# Altium schematic symbol library SCH.SchLib: 386 symbols (part 2 of 3)
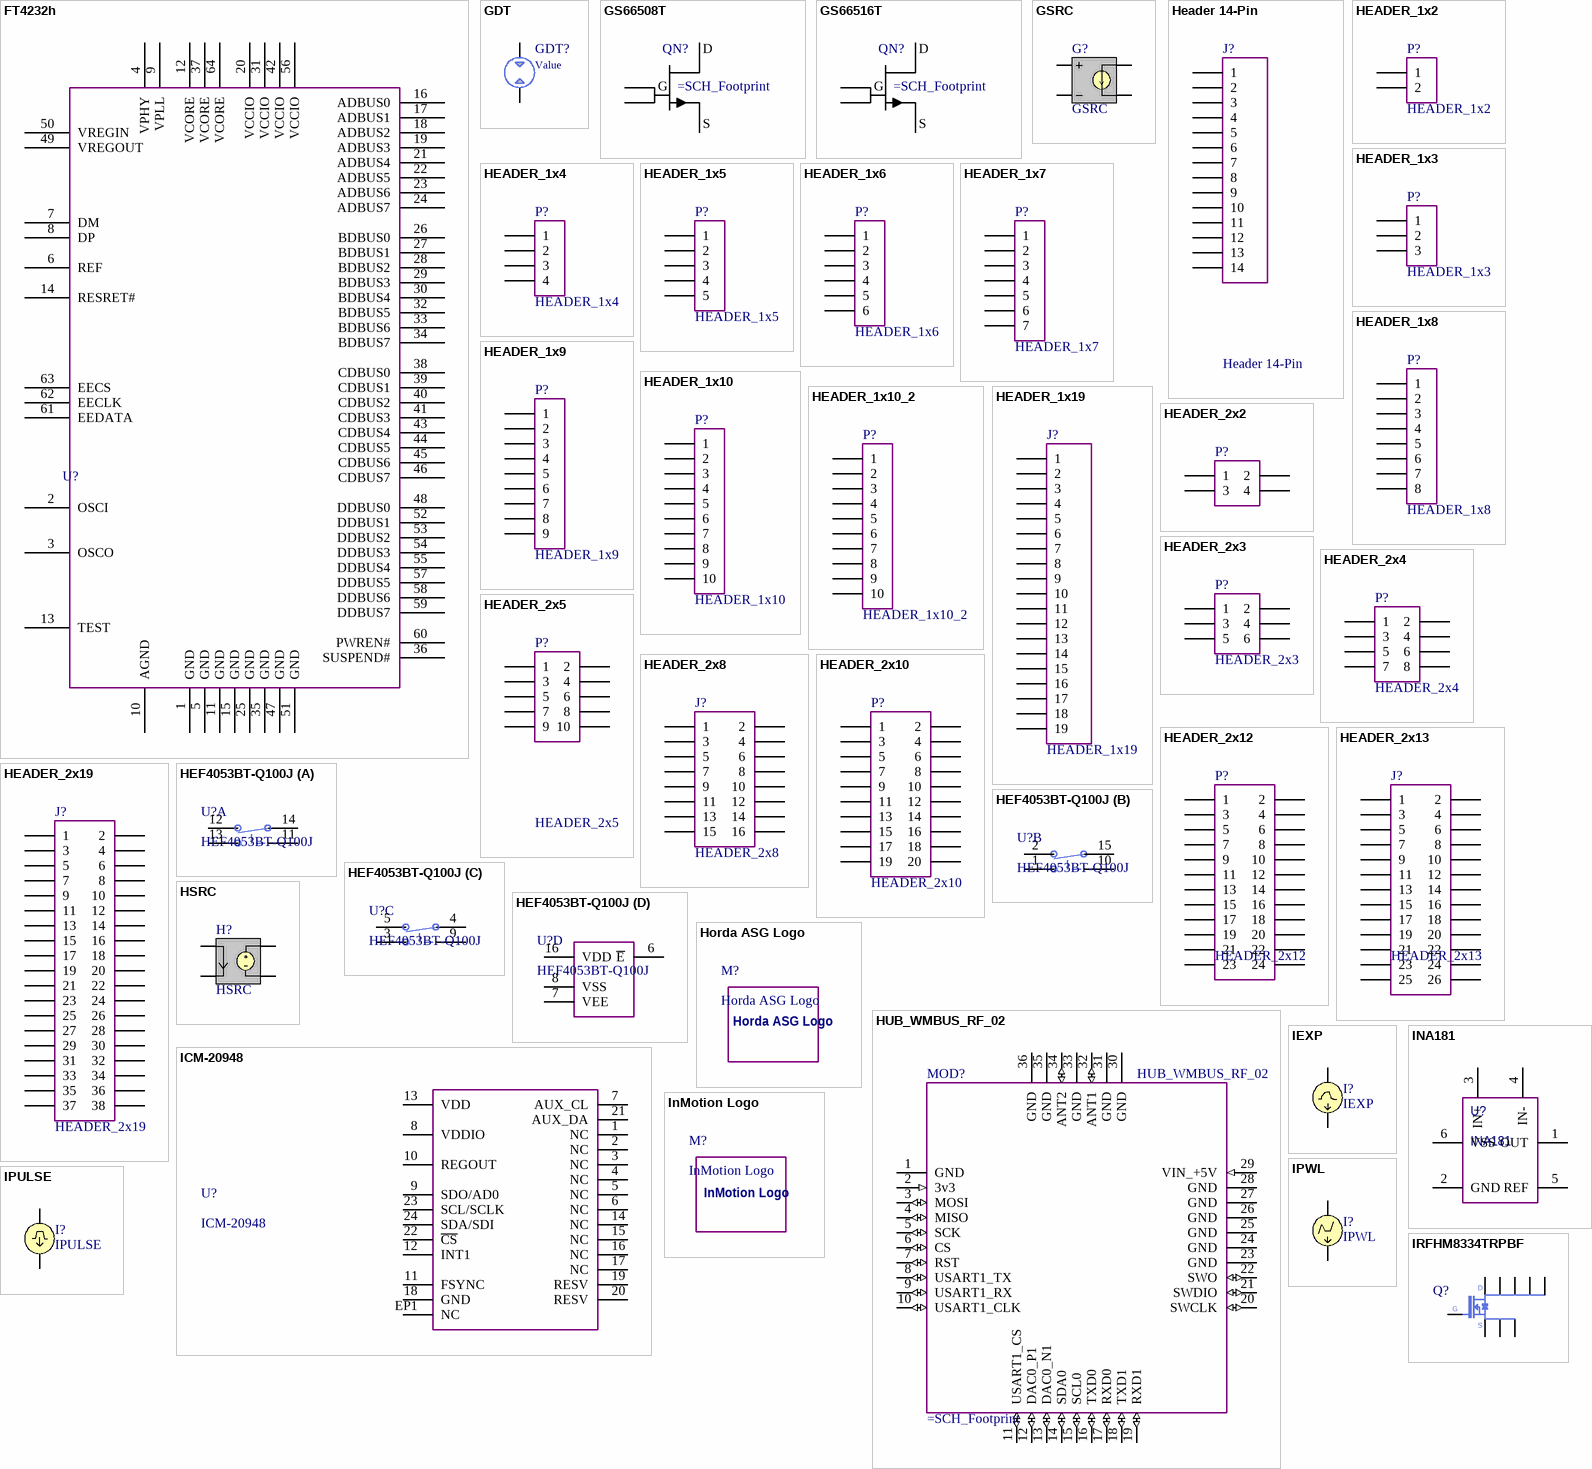
[diagram p15: symbols FT4232h to IRFHM8334TRPBF]

## HUB_WMBUS_RF_02
designator MOD?
pins: 1 GND, 2 3v3 (in), 3 MOSI (io) "PB3;PCNT1_S0IN #1;US2_TX #1", 4 MISO (io) "PB4;PCNT1_S1IN #1", 5 SCK (io) "PB5;US2_CLK #1", 6 CS (io) "PB6;US2_CS #1", 7 RST (io) "RESETn", 8 USART1_TX (io) "PD0;ADC0_CH0;OPAMP_OUT2 #1;PCNT2_S0IN #0;US1_TX #1", 9 USART1_RX (io) "PD1;ADC0_CH1;DAC0_OUT1ALT #4;OPAMP_OUT1ALT;TIM0_CC0 #3;PCNT2_S1IN #0;US1_RX #1;DBG_SWO #2", 10 USART1_CLK (io) "PD2;ADC0_CH2;TIM0_CC1 #3;USB_DMPU #0;US1_CLK #1;DBG_SWO #3", 11 USART1_CS (io) "PD3;ADC0_CH3 OPAMP_N2;TIM0_CC2 #3;US1_CS #1;ETM_TD1 #0/2", 12 DAC0_P1 (io) "PD6;ADC0_CH6 DAC0_P1;OPAMP_P1;TIM1_CC0#4;LE-TIM0_OUT0#0;PCNT0_S0IN#3;US1_RX#2;I2C0_SDA#1;ACMP0_O#2;ETM_TD0#0;BOOT_RX", 13 DAC0_N1 (io) "PD7;;ADC0_CH7;DAC0_N1;OPAMP_N1;TIM1_CC1#4;LE-TIM0_OUT1#0;PCNT0_S1IN#3;US1_TX#2;I2C0_SCL#1;CMU_CLK0#2;ACMP1_O#2;ETM_TCLK#0;BOOT_TX", 14 SDA0 (io) "PC6;ACMP0_CH6;LEU1_TX #0;I2C0_SDA#2;LES_CH6 #0;ETM_TCLK #2", 15 SCL0 (io) "PC7;ACMP0_CH7;LEU1_RX #0;I2C0_SCL #2;LES_CH7 #0 ETM_TD0 #2", 16 TXD0 (io) "PE0;TIM3_CC0#1;PCNT0_S0IN#1;U0_TX#1;I2C1_SDA#2", 17 RXD0 (io) "PE1;TIM3_CC1#1;PCNT0_S1IN#1;U0_RX#1;I2C1_SCL#2", 18 TXD1 (io) "PE2;BU_VOUT;TIM3_CC2#1;U1_TX#3;ACMP0_O#1", 19 RXD1 (io) "PE3;BU_STAT;U1_RX#3;ACMP1_O#1", 20 SWCLK (io) "PF0;TIM0_CC0#5;LE-TIM0_OUT0#2;US1_CLK#2;LEU0_TX#3;I2C0_SDA#5;DBG_SWCLK#0/1/2/3", 21 SWDIO (io) "PF1;TIM0_CC1#5;LE-TIM0_OUT1#2;US1_CS#2;LEU0_RX#3;I2C0_SCL#5;DBG_SWDIO#0/1/2/3;GPIO_EM4WU3", 22 SWO (io) "PF2;TIM0_CC2#5;LEU0_TX#4;ACMP1_O#0;DBG_SWO#0;GPIO_EM4WU4", 23 GND, 24 GND, 25 GND, 26 GND, 27 GND, 28 GND, 29 VIN_+5V (in), 30 GND, 31 GND, 32 ANT1 (io), 33 GND, 34 ANT2 (io), 35 GND, 36 GND

## ICM-20948
designator U?
pins: 1 NC, 2 NC, 3 NC, 4 NC, 5 NC, 6 NC, 7 AUX_CL, 8 VDDIO, 9 SDO/AD0, 10 REGOUT, 11 FSYNC, 12 INT1, 13 VDD, 14 NC (hiz), 15 NC, 16 NC, 17 NC, 18 GND, 19 RESV, 20 RESV, 21 AUX_DA, 22 ~{CS}, 23 SCL/SCLK, 24 SDA/SDI, EP1 NC

## IEXP
designator I?
Exponential Current Source; Published: 8-Jun-2000; LatestRevisionDate: 15-Nov-2004; LatestRevisionNote: Corrected Netlist.; PackageReference: Not Applicable; Publisher: Altium Limited
simulation model IEXP
pins: 1, 2

## INA181
designator U?
pins: 1 OUT, 2 GND, 3 IN+, 4 IN-, 5 REF, 6 VSS

## InMotion Logo
designator M?  (no BOM)

## IPULSE
designator I?
Pulse Current Source; Published: 8-Jun-2000; LatestRevisionDate: 15-Nov-2004; LatestRevisionNote: Corrected Netlist.; PackageReference: Not Applicable; Publisher: Altium Limited
simulation model IPULSE
pins: 1, 2

## IPWL
designator I?
Piecewise Linear Current Source; Sim Note: To add model file containing time-current pairs of values, enter model location under "General Tab" in "Full Path" box.; Published: 8-Jun-2000; LatestRevisionDate: 17-Jul-2002; LatestRevisionNote: Re-released for DXP Platform.; PackageReference: Not Applicable; Publisher: Altium Limited
simulation model IPWL
pins: 1, 2

## IRFHM8334TRPBF
designator Q?  (value not drawn)
pins: 1 S, 2 S, 3 S, 4 G, 5 D, 6 D, 7 D, 8 D, 9 D

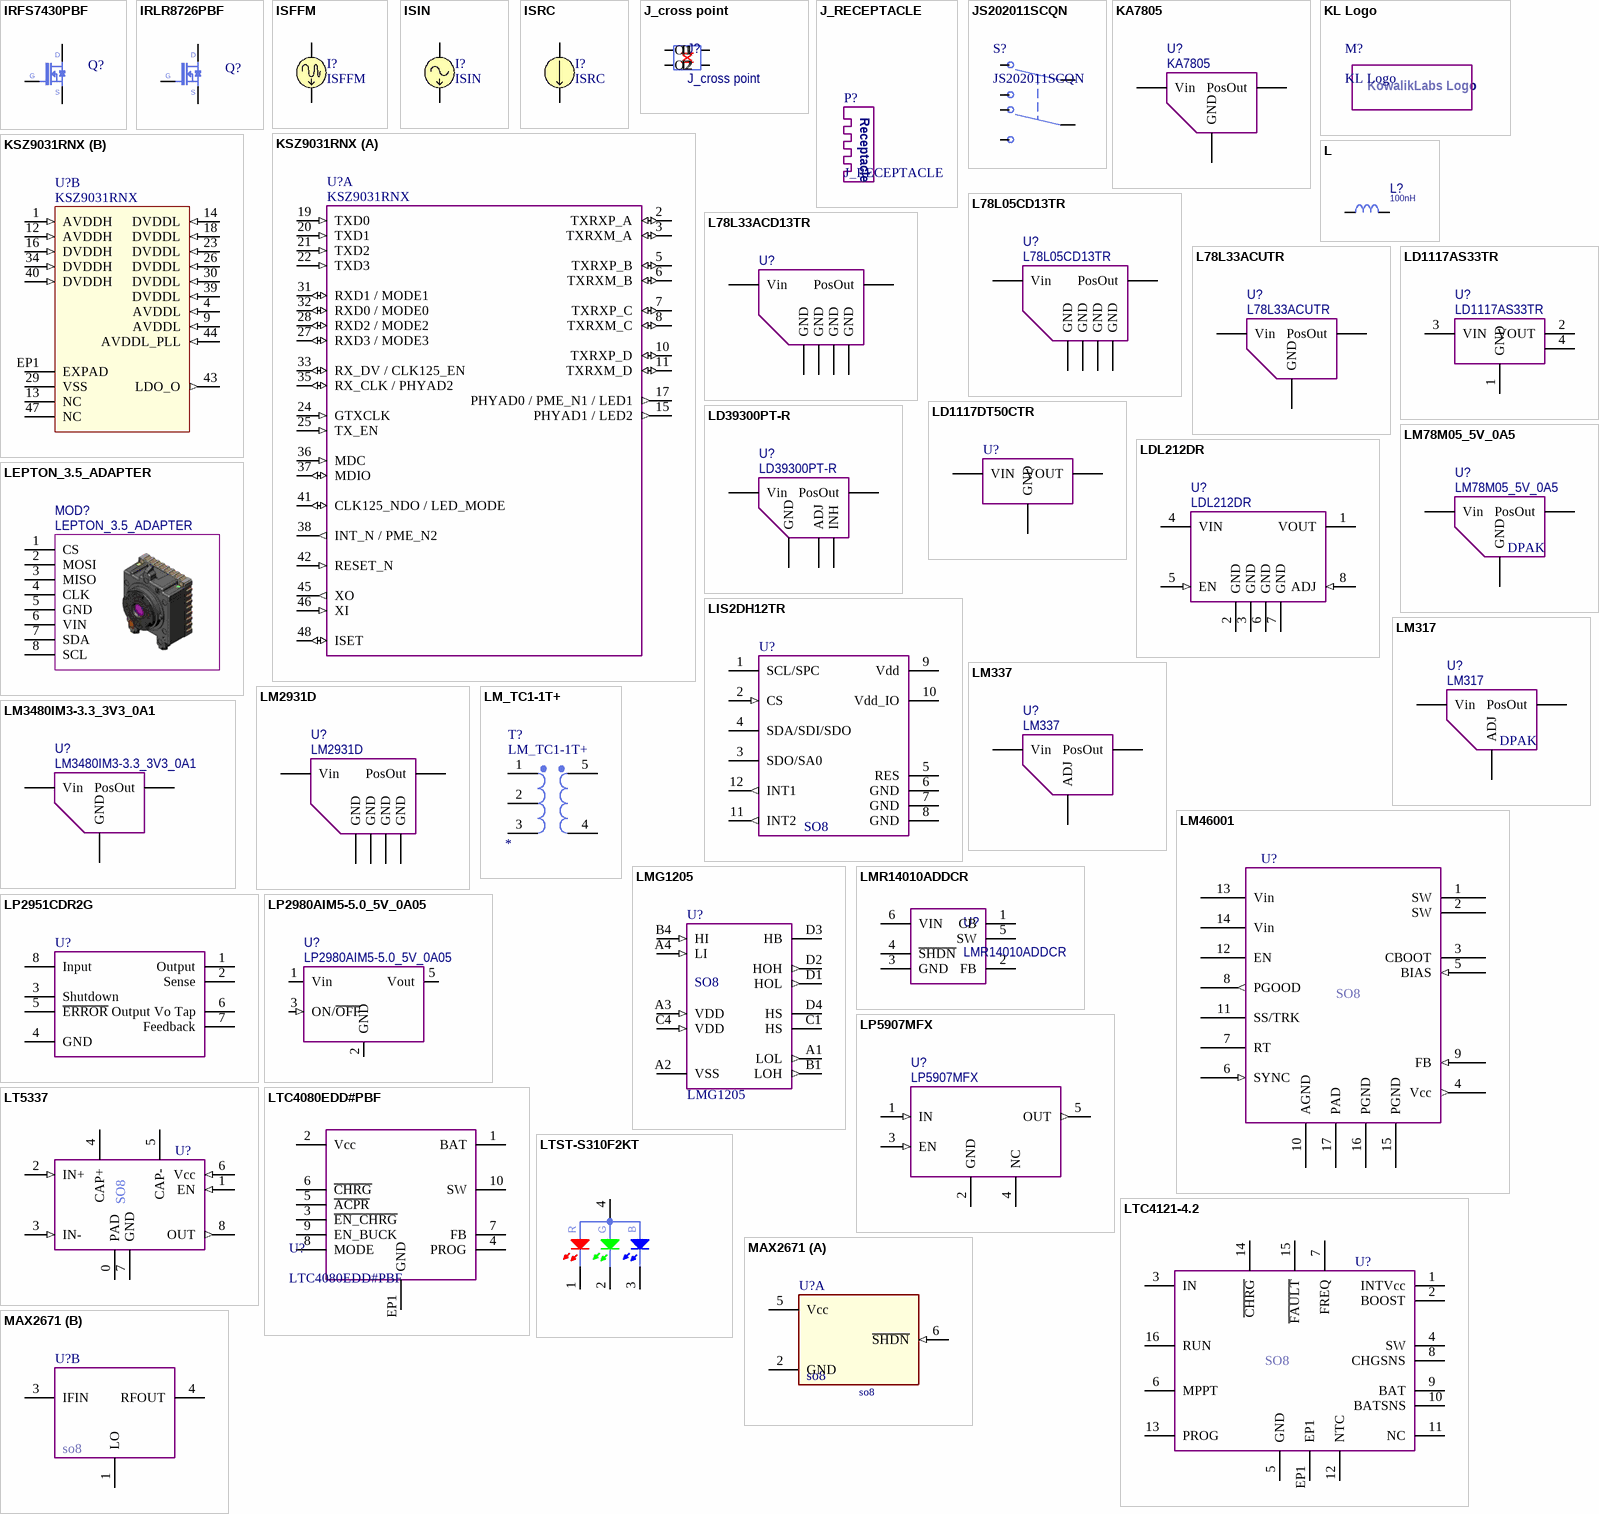
[diagram p6: symbols IRFS7430PBF to MAX2671]

## IRFS7430PBF
designator Q?  (value not drawn)
pins: 1 G, 3 S, 4 D

## IRLR8726PBF
designator Q?  (value not drawn)
pins: 1 G, 2 D, 3 S

## ISFFM
designator I?
Frequency-Modulated Sinusoidal Current Source; Published: 8-Jun-2000; LatestRevisionDate: 17-Jul-2002; LatestRevisionNote: Re-released for DXP Platform.; PackageReference: Not Applicable; Publisher: Altium Limited
simulation model ISFFM
pins: 1, 2

## ISIN
designator I?
Sinusoidal Current Source; Published: 8-Jun-2000; LatestRevisionDate: 15-Nov-2004; LatestRevisionNote: Corrected Netlist.; PackageReference: Not Applicable; Publisher: Altium Limited
simulation model ISIN
pins: 1, 2

## ISRC
designator I?
Current Source; Note: PCB Footprint - Not required; Published: 8-Jun-2000; LatestRevisionDate: 17-Jul-2002; LatestRevisionNote: Re-released for DXP Platform.; PackageReference: Not Applicable; Publisher: Altium Limited
simulation model ISRC
pins: 1, 2

## J_cross point
designator J?  (no BOM)
pins: 1 I1, 2 O1, 3 I2, 4 O2

## J_RECEPTACLE
designator P?
Header, 3-Pin
text: Receptacle

## JS202011SCQN
designator S?
pins: 1, 2, 3, 4, 5, 6

## KA7805
designator U?
pins: 1 Vin, 3 PosOut, 4 GND

## KL Logo
designator M?  (no BOM)
text: KowalikLabs Logo

## KSZ9031RNX
designator U?
part A pins: 2 TXRXP_A (io), 3 TXRXM_A (io), 5 TXRXP_B (io), 6 TXRXM_B (io), 7 TXRXP_C (io), 8 TXRXM_C (io), 10 TXRXP_D (io), 11 TXRXM_D (io), 15 PHYAD1 / LED2 (out) "LED2 / PHYAD1", 17 PHYAD0 / PME_N1 / LED1 (out) "LED! / PME_N1 / PHYAD0", 19 TXD0 (in), 20 TXD1 (in), 21 TXD2 (in), 22 TXD3 (in), 24 GTXCLK (in), 25 TX_EN (in), 27 RXD3 / MODE3 (io), 28 RXD2 / MODE2 (io), 31 RXD1 / MODE1 (io), 32 RXD0 / MODE0 (io), 33 RX_DV / CLK125_EN (io), 35 RX_CLK / PHYAD2 (io), 36 MDC (in), 37 MDIO (io), 38 INT_N / PME_N2 (out), 41 CLK125_NDO / LED_MODE (io), 42 RESET_N (in), 45 XO (out), 46 XI (in), 48 ISET (io)
part B pins: 1 AVDDH (in), 4 AVDDL (in), 9 AVDDL (in), 12 AVDDH (in), 13 NC, 14 DVDDL (in), 16 DVDDH (in), 18 DVDDL (in), 23 DVDDL (in), 26 DVDDL (in), 29 VSS (power), 30 DVDDL (in), 34 DVDDH (in), 39 DVDDL (in), 40 DVDDH (in), 43 LDO_O (out), 44 AVDDL_PLL (in), 47 NC, EP1 EXPAD (power)
2 alternate drawings of the same symbol

## L
designator L?  value 100nH  (hidden comment: L)
Induction
pins: 1, 2
1 alternate drawing of the same symbol

## L78L05CD13TR
designator U?
pins: 1 PosOut, 2 GND, 3 GND, 6 GND, 7 GND, 8 Vin

## L78L33ACD13TR
designator U?  (value not drawn)
pins: 1 PosOut, 2 GND, 3 GND, 6 GND, 7 GND, 8 Vin

## L78L33ACUTR
designator U?
pins: 1 PosOut, 2 GND, 3 Vin

## LD1117AS33TR
designator U?
Low-Dropout Positive Voltage Regulator
pins: 1 GND (power), 2 VOUT (power), 3 VIN (power), 4 VOUT (power)

## LD1117DT50CTR
designator U?  (value not drawn)
pins: 1 GND (power), 3 VIN (power), 4 VOUT (power)

## LD39300PT-R
designator U?
pins: 1 INH, 2 Vin, 4 PosOut, 5 ADJ, 6 GND

## LDL212DR
designator U?
Low-Dropout Positive Voltage Regulator
pins: 1 VOUT (power), 2 GND (power), 3 GND (power), 4 VIN (power), 5 EN (in), 6 GND (power), 7 GND (power), 8 ADJ (in)

## LEPTON_3.5_ADAPTER
designator MOD?
pins: 1 CS, 2 MOSI, 3 MISO, 4 CLK, 5 GND, 6 VIN, 7 SDA, 8 SCL

## LIS2DH12TR
designator U?  SCH_Footprint: SO8  (hidden comment: LIS2DH12TR)
pins: 1 SCL/SPC, 2 CS (in), 3 SDO/SA0, 4 SDA/SDI/SDO, 5 RES (power), 6 GND (power), 7 GND (power), 8 GND (power), 9 Vdd (power), 10 Vdd_IO (power), 11 INT2 (out), 12 INT1 (out)

## LM78M05_5V_0A5
designator U?
pins: 1 Vin, 3 PosOut, 4 GND
text: DPAK

## LM317
designator U?
pins: 1 ADJ, 3 Vin, 4 PosOut
text: DPAK

## LM337
designator U?
pins: 1 ADJ, 3 PosOut, 4 Vin

## LM2931D
designator U?
pins: 1 PosOut, 2 GND, 3 GND, 6 GND, 7 GND, 8 Vin

## LM3480IM3-3.3_3V3_0A1
designator U?
pins: 1 PosOut, 2 Vin, 3 GND

## LM46001
designator U?  SCH_Footprint: SO8  (hidden comment: LM46001)
synchronous  step-down  DC-DC converter,  3.5 V to 60 V, 1A
pins: 1 SW, 2 SW, 3 CBOOT, 4 Vcc (out), 5 BIAS (in), 6 SYNC (in), 7 RT, 8 PGOOD (out), 9 FB (in), 10 AGND, 11 SS/TRK, 12 EN, 13 Vin, 14 Vin, 15 PGND, 16 PGND, 17 PAD

## LM_TC1-1T+
designator T?
RF transformer; SCH_Footprint: *
pins: 1, 2, 3, 4, 5
2 alternate drawings of the same symbol

## LMG1205
designator U?  SCH_Footprint: SO8
pins: A1 LOL (out), A2 VSS, A3 VDD (in), A4 LI (in), B1 LOH (out), B4 HI (in), C1 HS, C4 VDD (in), D1 HOL (out), D2 HOH (out), D3 HB, D4 HS

## LMR14010ADDCR
designator U?
pins: 1 CB, 2 FB, 3 GND, 4 ~{SHDN}, 5 SW, 6 VIN

## LP2951CDR2G
designator U?  (value not drawn)
pins: 1 Output, 2 Sense, 3 Shutdown, 4 GND, 5 ~{ERROR} Output, 6 Vo Tap, 7 Feedback, 8 Input

## LP2980AIM5-5.0_5V_0A05
designator U?
pins: 1 Vin, 2 GND (power), 3 ON/~{OFF} (in), 5 Vout

## LP5907MFX
designator U?
ultra low noise LDO
pins: 1 IN (in), 2 GND (power), 3 EN (in), 4 NC, 5 OUT (out)

## LT5337
designator U?  SCH_Footprint: SO8  (hidden comment: LT5337)
pins: 0 PAD (power), 1 EN (in), 2 IN+ (in), 3 IN- (in), 4 CAP+, 5 CAP-, 6 Vcc (in), 7 GND (power), 8 OUT (out)

## LTC4080EDD#PBF
designator U?
pins: 1 BAT, 2 Vcc, 3 ~{EN_CHRG}, 4 PROG, 5 ~{ACPR}, 6 ~{CHRG}, 7 FB, 8 MODE, 9 EN_BUCK, 10 SW, EP1 GND

## LTC4121-4.2
designator U?  SCH_Footprint: SO8  (hidden comment: LTC4121-4.2)
pins: 1 INTVcc, 2 BOOST, 3 IN (power), 4 SW, 5 GND (power), 6 MPPT, 7 FREQ, 8 CHGSNS, 9 BAT, 10 BATSNS, 11 NC, 12 NTC, 13 PROG, 14 ~{CHRG}, 15 ~{FAULT}, 16 RUN, EP1

## LTST-S310F2KT
designator U?
High Luminous PLCC4 Top SMD LEDs
pins: 1 R, 2 AG, 3 AB, 4 CC
text: G; B

## MAX2671
designator U?  SCH_Footprint: so8  (hidden comment: MAX2671)
400MHz to 2.5GHz Upconverter Mixer
part A pins: 2 GND (power), 5 Vcc (power), 6 ~{SHDN} (in)
part B pins: 1 LO, 3 IFIN, 4 RFOUT

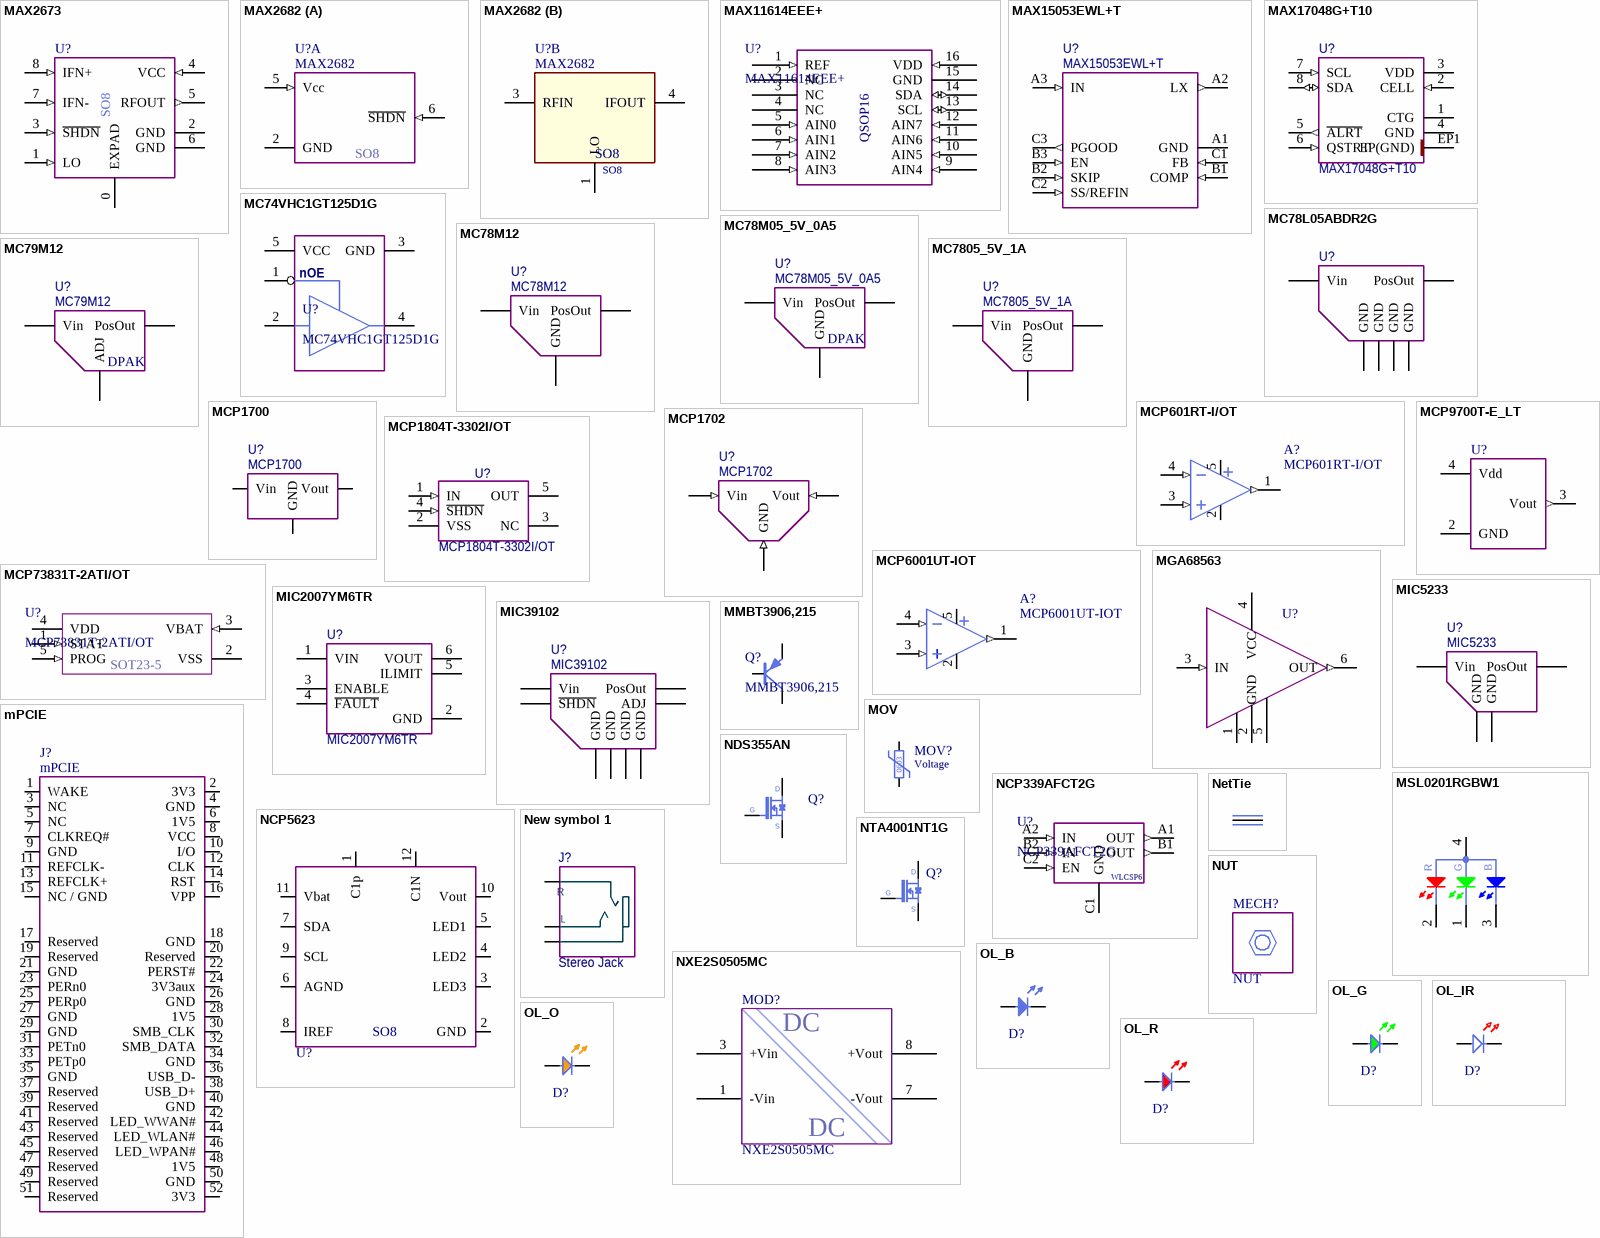
[diagram p7: symbols MAX2673 to OL_R]

## MAX2673
designator U?  SCH_Footprint: SO8  (hidden comment: MAX2673)
400MHz to 2.5GHz Upconverter Mixers
pins: 0 EXPAD, 1 LO (in), 2 GND (power), 3 ~{SHDN} (in), 4 VCC (in), 5 RFOUT (out), 6 GND (power), 7 IFN- (in), 8 IFN+ (in)
2 alternate drawings of the same symbol

## MAX2682
designator U?  SCH_Footprint: SO8
part A pins: 2 GND (power), 5 Vcc (in), 6 ~{SHDN} (in)
part B pins: 1 LO, 3 RFIN, 4 IFOUT
2 alternate drawings of the same symbol

## MAX11614EEE+
designator U?  SCH_Footprint: QSOP16
pins: 1 REF (in), 2 NC, 3 NC, 4 NC, 5 AIN0 (in), 6 AIN1 (in), 7 AIN2 (in), 8 AIN3 (in), 9 AIN4 (in), 10 AIN5 (in), 11 AIN6 (in), 12 AIN7 (in), 13 SCL (io), 14 SDA (io), 15 GND, 16 VDD (in)

## MAX15053EWL+T
designator U?
pins: A1 GND (power), A2 LX (out), A3 IN (in), B1 COMP (in), B2 SKIP (in), B3 EN (in), C1 FB (in), C2 SS/REFIN (in), C3 PGOOD (out)

## MAX17048G+T10
designator U?
3μA 1-Cell/2-Cell Fuel Gauge with ModelGauge; Manufacturer: MAXIM; Table: Analog & Interface; Part Number: MAX17048G+T10; Component Kind: Standard; Component Type: Standard; Footprint: SON50P200X80_HS-9N; PackageDescription: SON, 8-Leads, Body 2,05x2,05mm, Pitch 0,50mm, Thermal Pad 1,20x0,79mm, IPC Medium Density; Part Description: 3μA 1-Cell/2-Cell Fuel Gauge with ModelGauge; Manufacturer Part Number: MAX17048G+T10; Pin Count: 8; Case: TDFN8-EP; Mounted: Yes; Socket: No; SMD: Yes; ComponentHeight: 0.8mm; Author: Yuri; CreateDate: 16-02-2018; LatestRevisionDate: 16-02-2018; Device: MAX17048G+T10
pins: 1 CTG, 2 CELL (in), 3 VDD (power), 4 GND (power), 5 ~{ALRT} (out), 6 QSTRT (in), 7 SCL (in), 8 SDA (io), EP1 EP(GND) (power)

## MC74VHC1GT125D1G
designator U?
pins: 1 ~{OE}, 2, 3 GND, 4 OutY, 5 VCC
text: nOE

## MC78L05ABDR2G
designator U?  (value not drawn)
pins: 1 PosOut, 2 GND, 3 GND, 6 GND, 7 GND, 8 Vin

## MC78M05_5V_0A5
designator U?
pins: 1 Vin, 3 PosOut, 4 GND
text: DPAK

## MC78M12
designator U?
pins: 1 Vin, 3 PosOut, 4 GND

## MC79M12
designator U?
pins: 1 ADJ, 3 PosOut, 4 Vin
text: DPAK

## MC7805_5V_1A
designator U?
pins: 1 Vin, 3 PosOut, 4 GND

## MCP601RT-I/OT
designator A?
pins: 1 OUT2 (out), 2 GND (power), 3 IN+2 (in), 4 IN-2 (in), 5 VDD (power)

## MCP1700
designator U?
pins: 1 GND (power), 2 Vout, 3 Vin

## MCP1702
designator U?
pins: 1 GND (in), 2 Vin (in), 3 Vout (in)

## MCP1804T-3302I/OT
designator U?
150 mA, 28V LDO Regulator With Shutdown; Part Description: 150 mA, 3,3V LDO Regulator With Shutdown; Manufacturer: MICROCHIP TECHNOLOGY; Table: Regulators; Part Number: MCP1804T-3302I/OT; Component Kind: Standard; Component Type: Standard; Footprint: SOT95P270X145-5N; PackageDescription: SOT, 0.95mm Pitch; 5 Pin,1.55mm W X 2.90mm L X 1.45mm H body, IPC Medium Density; Manufacturer Part Number: MCP1804T-3302I/OT; Pin Count: 3; Case: SOT23-5; Mounted: Yes; Socket: No; SMD: Yes; ComponentHeight: 1.45mm; Author: Yuri; CreateDate: 01.10.2017; LatestRevisionDate: 01.10.2017; Device: MCP1804T-3302I/OT
pins: 1 IN (in), 2 VSS (power), 3 NC, 4 ~{SHDN} (in), 5 OUT (power)

## MCP6001UT-IOT
designator A?
pins: 1 OUT2 (out), 2 GND (power), 3 IN+2 (in), 4 IN-2 (in), 5 VDD (power)

## MCP9700T-E_LT
designator U?  (value not drawn)
pins: 2 GND (power), 3 Vout (out), 4 Vdd (power)

## MCP73831T-2ATI/OT
designator U?  SCH_Footprint: SOT23-5
pins: 1 STAT (in), 2 VSS, 3 VBAT (in), 4 VDD (power), 5 PROG (in)

## MGA68563
designator U?  (value not drawn)
pins: 1 GND (power), 2 GND (power), 3 IN (in), 4 VCC (power), 5 GND (power), 6 OUT (out)

## MIC2007YM6TR
designator U?
pins: 1 VIN, 2 GND, 3 ENABLE, 4 ~{FAULT}, 5 ILIMIT, 6 VOUT

## MIC5233
designator U?
pins: 1 Vin, 2 GND, 3 PosOut, 4 GND

## MIC39102
designator U?
pins: 1 ~{SHDN}, 2 Vin, 3 PosOut, 4 ADJ, 5 GND, 6 GND, 7 GND, 8 GND

## MMBT3906,215
designator Q?
pins: 1 B, 2 E, 3 C

## MOV
designator MOV?  SCH_Footprint: 0603  (hidden comment: MOV)
Varistor; Voltage: Voltage
pins: 1, 2
2 alternate drawings of the same symbol

## mPCIE
designator J?
mini PCI express connector
pins: 1 WAKE, 2 3V3, 3 NC, 4 GND, 5 NC, 6 1V5, 7 CLKREQ#, 8 VCC, 9 GND, 10 I/O, 11 REFCLK-, 12 CLK, 13 REFCLK+, 14 RST, 15 NC / GND, 16 VPP, 17 Reserved, 18 GND, 19 Reserved, 20 Reserved, 21 GND, 22 PERST#, 23 PERn0, 24 3V3aux, 25 PERp0, 26 GND, 27 GND, 28 1V5, 29 GND, 30 SMB_CLK, 31 PETn0, 32 SMB_DATA, 33 PETp0, 34 GND, 35 GND, 36 USB_D-, 37 Reserved, 38 USB_D+, 39 Reserved, 40 GND, 41 Reserved, 42 LED_WWAN#, 43 Reserved, 44 LED_WLAN#, 45 Reserved, 46 LED_WPAN#, 47 Reserved, 48 1V5, 49 Reserved, 50 GND, 51 Reserved, 52 3V3
2 alternate drawings of the same symbol

## MSL0201RGBW1
designator U?
High Luminous PLCC4 Top SMD LEDs
pins: 1 AG, 2 R, 3 AB, 4 CC
text: G; B

## NCP339AFCT2G
designator U?  SCH_Footprint: WLCSP6
pins: A1 OUT (out), A2 IN (in), B1 OUT (out), B2 IN (in), C1 GND, C2 EN (in)

## NCP5623
designator U?  SCH_Footprint: SO8  (hidden comment: NCP5623)
U_NCP5623_LLGA12
pins: 1 C1p, 2 GND, 3 LED3, 4 LED2, 5 LED1, 6 AGND, 7 SDA, 8 IREF, 9 SCL, 10 Vout, 11 Vbat, 12 C1N
2 alternate drawings of the same symbol

## NDS355AN
designator Q?  (value not drawn)
pins: 1 G, 2 S, 3 D

## NetTie
designator NT?  (value not drawn)  (net tie, no BOM)
pins: 1, 2
1 alternate drawing of the same symbol

## New symbol 1
designator J?  Family: Stereo Jack  (hidden comment: New symbol 1)
Part Number: J_SJ-2523-SMT-TR; Part Description: 2.5mm Sterero Jack SMD Connector Without Switch; Manufacturer: CUI; Manufacturer Part Number: SJ-2523-SMT-TR; Table: Miscellaneous; Value: Manufacturer Part Number; SCH_Footprint: THT; Component Kind: Standard; Component Type: Standard; Footprint: CUI_SJ-2523-SMT-TR; Pin Count: 3; Mounted: Yes; Socket: No; SMD: Yes; Status: None; ComponentHeight: 4.6mm; Author: Yuri; CreateDate: 06.04.2018; LatestRevisionDate: 06.04.2018; HelpURL: http://datasheet.octopart.com/SJ-2523-SMT-TR-CUI-datasheet-103774365.pdf; Supplier 1: TME; Supplier 2: RS Components; Supplier 3: Farnell; Supplier 4: Mouser; Supplier Part Number 4: 490-SJ-2523-SMT-TR; Supplier 5: Digi-Key; Supplier Part Number 5: CP-2523SJCT-ND
footprint CUI_SJ-2523-SMT-TR
footprint SJ-2523-SMT-TR
pins: 1 GND, 2 L, 3 R

## NTA4001NT1G
designator Q?  (value not drawn)
pins: 1 G, 2 S, 3 D

## NUT
designator MECH?

## NXE2S0505MC
designator MOD?
Surface  mount DC/DC converters 5V/5V 0.4A
pins: 1 -Vin, 3 +Vin, 7 -Vout, 8 +Vout
text: DC

## OL_B
designator D?  (value not drawn)
LED_BLUE
pins: 1 C, 2 A

## OL_G
designator D?  (value not drawn)
LED GREEN
pins: 1 C, 2 A

## OL_IR
designator D?  (value not drawn)
LED_RED
pins: 1 C, 2 A

## OL_O
designator D?  (value not drawn)
LED_RED
pins: 1 C, 2 A

## OL_R
designator D?  (value not drawn)
LED_RED
pins: 1 C, 2 A

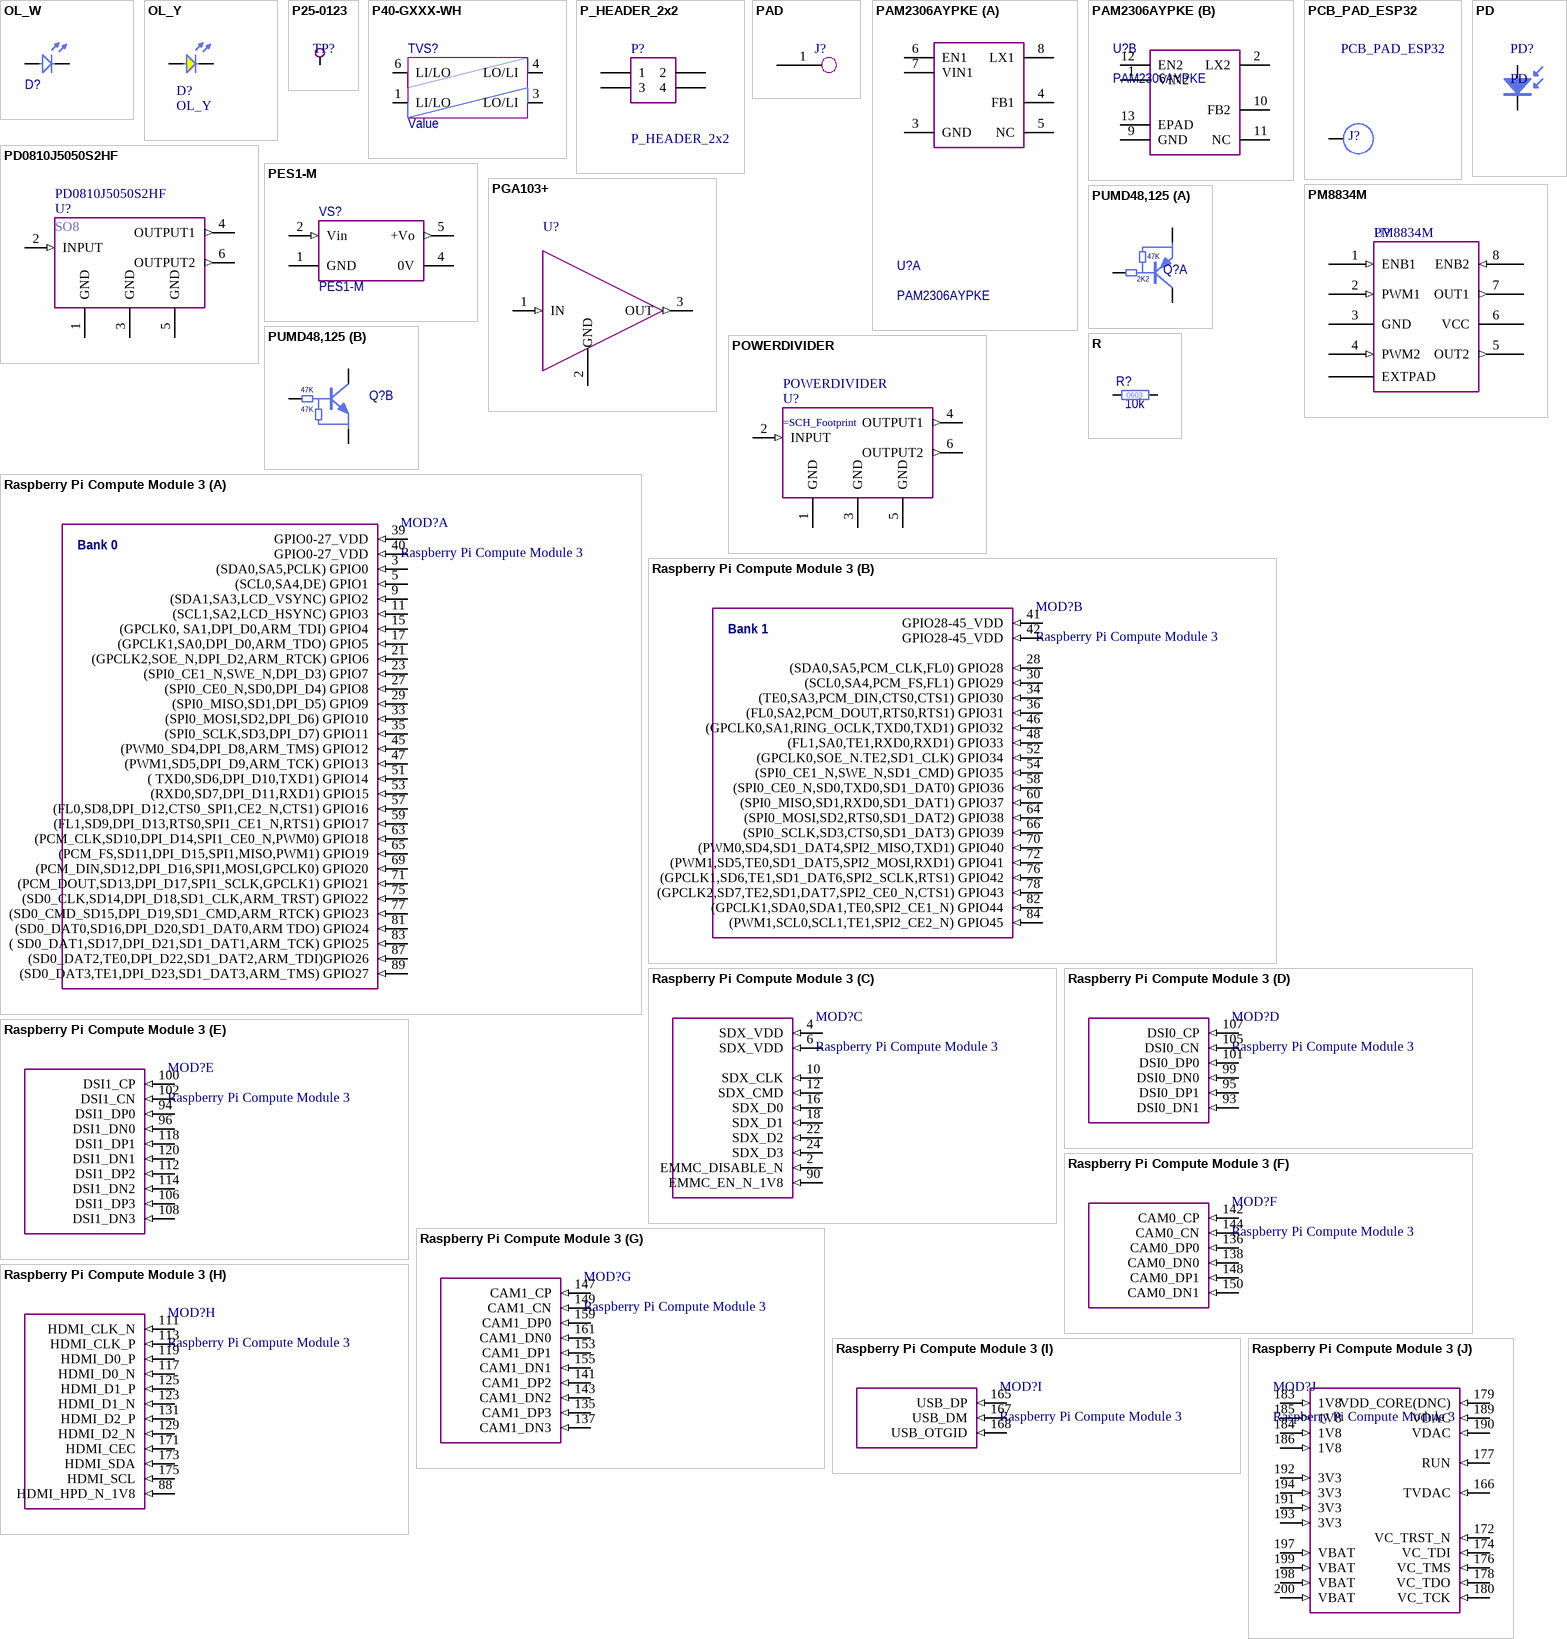
[diagram p8: symbols OL_W to Raspberry Pi Compute Module 3]

## OL_W
designator D?  (value not drawn)
LED_WHITE
pins: 1 C, 2 A

## OL_Y
designator D?
LED_YELLOW
pins: 1 C, 2 A

## P25-0123
designator TP?  (value not drawn)
pins: 1 TP

## P40-GXXX-WH
designator TVS?  (value not drawn)
Bidirectional High-Speed Overcurrent Protector.; Value: Value
pins: 1 LI/LO, 3 LO/LI, 4 LO/LI, 6 LI/LO

## P_HEADER_2x2
designator P?
pins: 1, 2, 3, 4

## PAD
designator J?  (value not drawn)
PCB Pad
pins: 1
3 alternate drawings of the same symbol

## PAM2306AYPKE
designator U?
part A pins: 3 GND, 4 FB1, 5 NC, 6 EN1, 7 VIN1, 8 LX1
part B pins: 1 VIN2, 2 LX2, 9 GND, 10 FB2, 11 NC, 12 EN2, 13 EPAD

## PCB_PAD_ESP32
designator J?
PCB PAD
pins: ?1 1
2 alternate drawings of the same symbol

## PD
designator PD?
pins: 1 K, 2 A

## PD0810J5050S2HF
designator U?  SCH_Footprint: SO8
pins: 1 GND, 2 INPUT (in), 3 GND, 4 OUTPUT1 (out), 5 GND (power), 6 OUTPUT2 (out)
2 alternate drawings of the same symbol

## PES1-M
designator VS?
pins: 1 GND (power), 2 Vin (in), 4 0V, 5 +Vo (out)

## PGA103+
designator U?  (value not drawn)
pins: 1 IN (in), 2 GND (power), 3 OUT (out)

## PM8834M
designator U?
pins: 0 EXTPAD (power), 1 ENB1 (in), 2 PWM1 (in), 3 GND (power), 4 PWM2 (in), 5 OUT2 (out), 6 VCC (power), 7 OUT1 (out), 8 ENB2 (in)

## POWERDIVIDER
designator U?
pins: 1 GND, 2 INPUT (in), 3 GND, 4 OUTPUT1 (out), 5 GND (power), 6 OUTPUT2 (out)
2 alternate drawings of the same symbol

## PUMD48,125
designator Q?  (value not drawn)
Transitor PNP
part A pins: 3 C2, 4 E2, 5 B1
part B pins: 1 E1, 2 B1, 6 C1
part A text: 47K; 2K2
part B text: 47K

## R
designator R?  Case/Package: 0603esistance: 10k  (hidden comment: R)
pins: 1, 2
1 alternate drawing of the same symbol

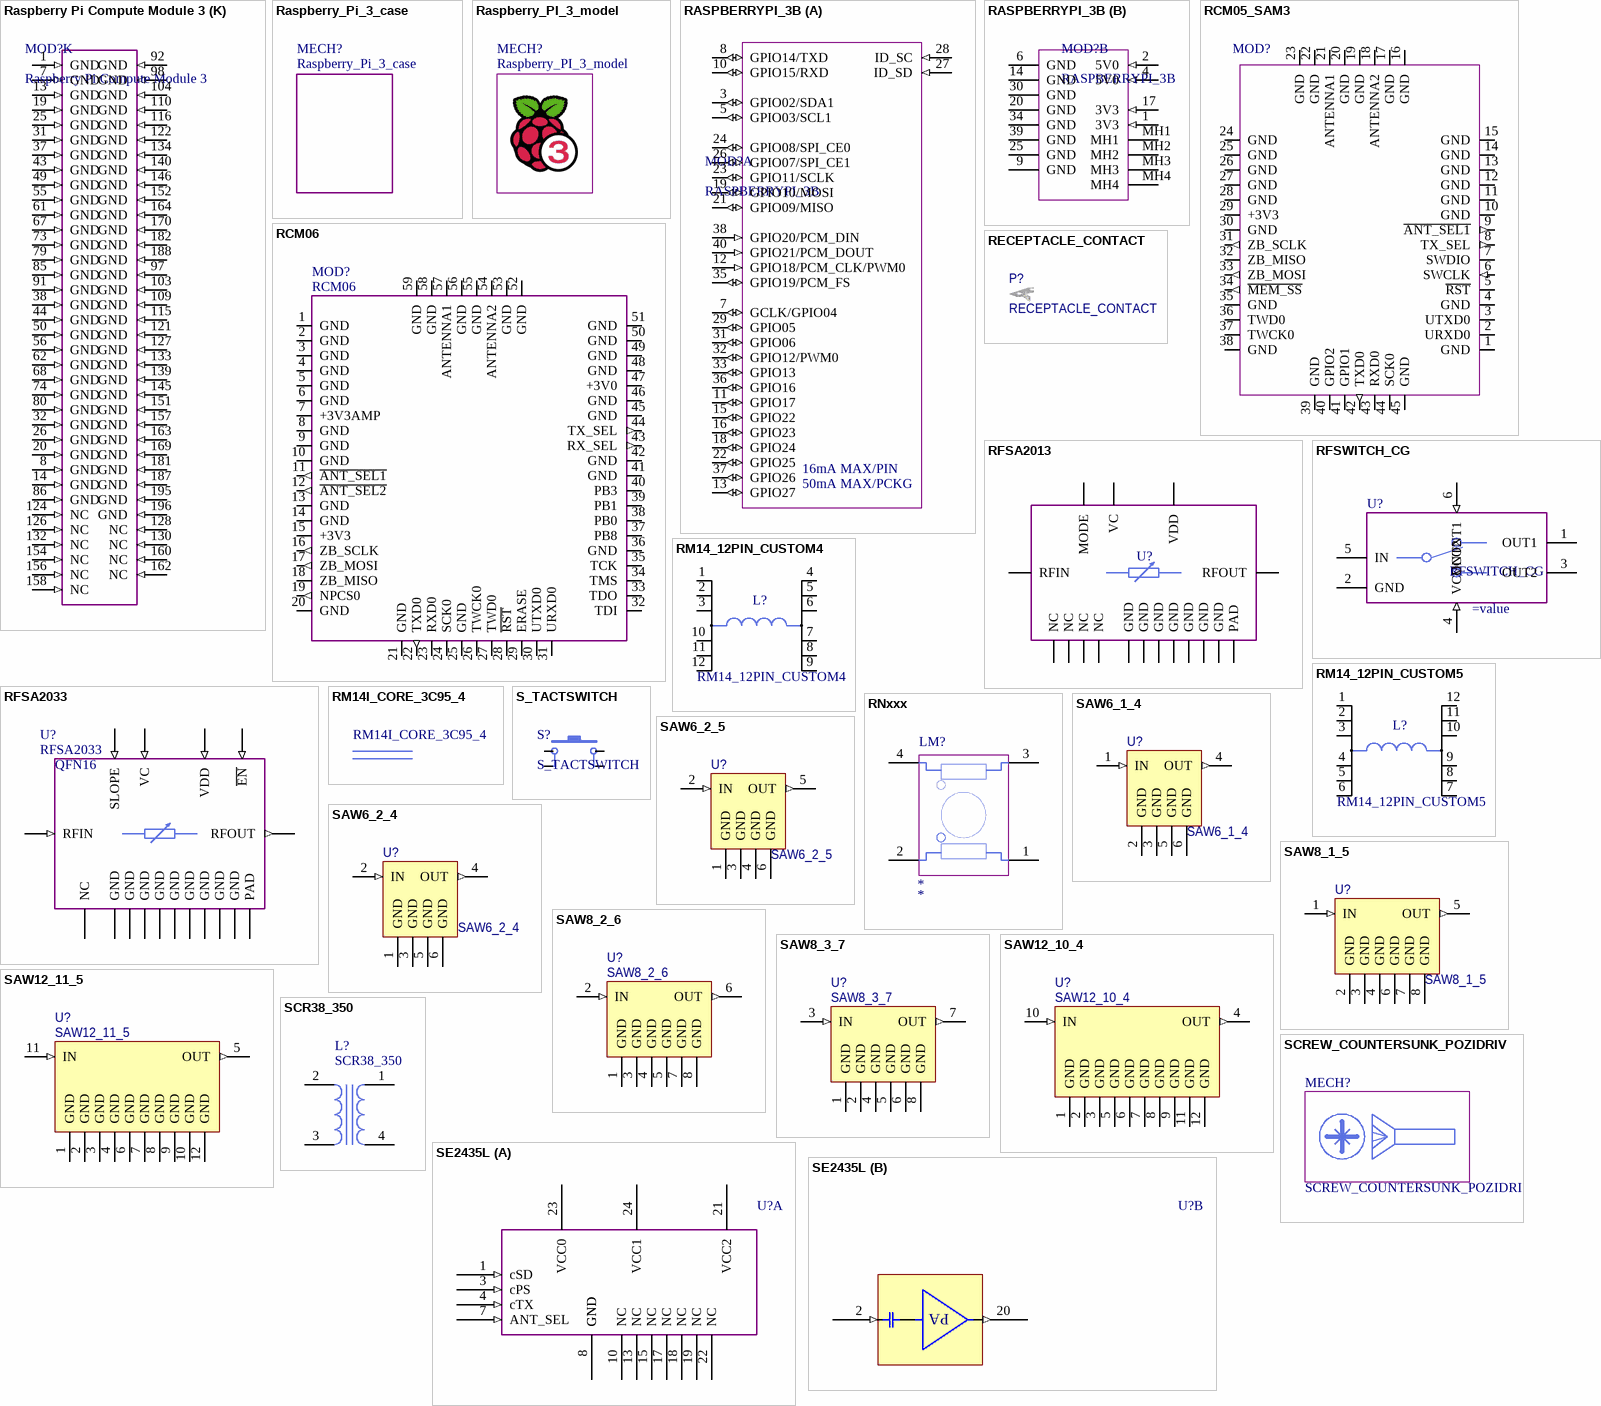
[diagram p9: symbols Raspberry Pi Compute Module 3 to SE2435L]

## Raspberry Pi Compute Module 3
designator MOD?
part A pins: 3 (SDA0,SA5,PCLK) GPIO0 (in), 5 (SCL0,SA4,DE) GPIO1 (in), 9 (SDA1,SA3,LCD_VSYNC) GPIO2 (in), 11 (SCL1,SA2,LCD_HSYNC) GPIO3 (in), 15 (GPCLK0, SA1,DPI_D0,ARM_TDI) GPIO4 (in), 17 (GPCLK1,SA0,DPI_D0,ARM_TDO) GPIO5 (in), 21 (GPCLK2,SOE_N,DPI_D2,ARM_RTCK) GPIO6 (in), 23 (SPI0_CE1_N,SWE_N,DPI_D3) GPIO7 (in), 27 (SPI0_CE0_N,SD0,DPI_D4) GPIO8 (in), 29 (SPI0_MISO,SD1,DPI_D5) GPIO9 (in), 33 (SPI0_MOSI,SD2,DPI_D6) GPIO10 (in), 35 (SPI0_SCLK,SD3,DPI_D7) GPIO11 (in), 39 GPIO0-27_VDD (in), 40 GPIO0-27_VDD (in), 45 (PWM0_SD4,DPI_D8,ARM_TMS) GPIO12 (in), 47 (PWM1,SD5,DPI_D9,ARM_TCK) GPIO13 (in), 51 ( TXD0,SD6,DPI_D10,TXD1) GPIO14 (in), 53 (RXD0,SD7,DPI_D11,RXD1) GPIO15 (in), 57 (FL0,SD8,DPI_D12,CTS0_SPI1,CE2_N,CTS1) GPIO16 (in), 59 (FL1,SD9,DPI_D13,RTS0,SPI1_CE1_N,RTS1) GPIO17 (in), 63 (PCM_CLK,SD10,DPI_D14,SPI1_CE0_N,PWM0) GPIO18 (in), 65 (PCM_FS,SD11,DPI_D15,SPI1,MISO,PWM1) GPIO19 (in), 69 (PCM_DIN,SD12,DPI_D16,SPI1,MOSI,GPCLK0) GPIO20 (in), 71 (PCM_DOUT,SD13,DPI_D17,SPI1_SCLK,GPCLK1) GPIO21 (in), 75 (SD0_CLK,SD14,DPI_D18,SD1_CLK,ARM_TRST) GPIO22 (in), 77 (SD0_CMD_SD15,DPI_D19,SD1_CMD,ARM_RTCK) GPIO23 (in), 81  (SD0_DAT0,SD16,DPI_D20,SD1_DAT0,ARM TDO) GPIO24 (in), 83 ( SD0_DAT1,SD17,DPI_D21,SD1_DAT1,ARM_TCK) GPIO25 (in), 87 (SD0_DAT2,TE0,DPI_D22,SD1_DAT2,ARM_TDI)GPIO26 (in), 89 (SD0_DAT3,TE1,DPI_D23,SD1_DAT3,ARM_TMS) GPIO27 (in)
part B pins: 28 (SDA0,SA5,PCM_CLK,FL0) GPIO28 (in), 30 (SCL0,SA4,PCM_FS,FL1) GPIO29 (in), 34 (TE0,SA3,PCM_DIN,CTS0,CTS1) GPIO30 (in), 36 (FL0,SA2,PCM_DOUT,RTS0,RTS1) GPIO31 (in), 41 GPIO28-45_VDD (in), 42 GPIO28-45_VDD (in), 46 (GPCLK0,SA1,RING_OCLK,TXD0,TXD1) GPIO32 (in), 48 (FL1,SA0,TE1,RXD0,RXD1) GPIO33 (in), 52 (GPCLK0,SOE_N.TE2,SD1_CLK) GPIO34 (in), 54 (SPI0_CE1_N,SWE_N,SD1_CMD) GPIO35 (in), 58 (SPI0_CE0_N,SD0,TXD0,SD1_DAT0) GPIO36 (in), 60 (SPI0_MISO,SD1,RXD0,SD1_DAT1) GPIO37 (in), 64 (SPI0_MOSI,SD2,RTS0,SD1_DAT2) GPIO38 (in), 66 (SPI0_SCLK,SD3,CTS0,SD1_DAT3) GPIO39 (in), 70 (PWM0,SD4,SD1_DAT4,SPI2_MISO,TXD1) GPIO40 (in), 72 (PWM1,SD5,TE0,SD1_DAT5,SPI2_MOSI,RXD1) GPIO41 (in), 76 (GPCLK1,SD6,TE1,SD1_DAT6,SPI2_SCLK,RTS1) GPIO42 (in), 78 (GPCLK2,SD7,TE2,SD1,DAT7,SPI2_CE0_N,CTS1) GPIO43 (in), 82 (GPCLK1,SDA0,SDA1,TE0,SPI2_CE1_N) GPIO44 (in), 84 (PWM1,SCL0,SCL1,TE1,SPI2_CE2_N) GPIO45 (in)
part C pins: 2 EMMC_DISABLE_N (in), 4 SDX_VDD (in), 6 SDX_VDD (in), 10 SDX_CLK (in), 12 SDX_CMD (in), 16 SDX_D0 (in), 18 SDX_D1 (in), 22 SDX_D2 (in), 24 SDX_D3 (in), 90 EMMC_EN_N_1V8 (in)
part D pins: 93 DSI0_DN1 (in), 95 DSI0_DP1 (in), 99 DSI0_DN0 (in), 101 DSI0_DP0 (in), 105 DSI0_CN (in), 107 DSI0_CP (in)
part E pins: 94 DSI1_DP0 (in), 96 DSI1_DN0 (in), 100 DSI1_CP (in), 102 DSI1_CN (in), 106 DSI1_DP3 (in), 108 DSI1_DN3 (in), 112 DSI1_DP2 (in), 114 DSI1_DN2 (in), 118 DSI1_DP1 (in), 120 DSI1_DN1 (in)
part F pins: 136 CAM0_DP0 (in), 138 CAM0_DN0 (in), 142 CAM0_CP (in), 144 CAM0_CN (in), 148 CAM0_DP1 (in), 150 CAM0_DN1 (in)
part G pins: 135 CAM1_DP3 (in), 137 CAM1_DN3 (in), 141 CAM1_DP2 (in), 143 CAM1_DN2 (in), 147 CAM1_CP (in), 149 CAM1_CN (in), 153 CAM1_DP1 (in), 155 CAM1_DN1 (in), 159 CAM1_DP0 (in), 161 CAM1_DN0 (in)
part H pins: 88 HDMI_HPD_N_1V8 (in), 111 HDMI_CLK_N (in), 113 HDMI_CLK_P (in), 117 HDMI_D0_N (in), 119 HDMI_D0_P (in), 123 HDMI_D1_N (in), 125 HDMI_D1_P (in), 129 HDMI_D2_N (in), 131 HDMI_D2_P (in), 171 HDMI_CEC (in), 173 HDMI_SDA (in), 175 HDMI_SCL (in)
part I pins: 165 USB_DP (in), 167 USB_DM (in), 168 USB_OTGID (in)
part J pins: 166 TVDAC (in), 172 VC_TRST_N (in), 174 VC_TDI (in), 176 VC_TMS (in), 177 RUN (in), 178 VC_TDO (in), 179 VDD_CORE(DNC) (in), 180 VC_TCK (in), 183 1V8 (in), 184 1V8 (in), 185 1V8 (in), 186 1V8 (in), 189 VDAC (in), 190 VDAC (in), 191 3V3 (in), 192 3V3 (in), 193 3V3 (in), 194 3V3 (in), 197 VBAT (in), 198 VBAT (in), 199 VBAT (in), 200 VBAT (in)
part K pins: 1 GND (in), 7 GND (in), 8 GND (in), 13 GND (in), 14 GND (in), 19 GND (in), 20 GND (in), 25 GND (in), 26 GND (in), 31 GND (in), 32 GND (in), 37 GND (in), 38 GND (in), 43 GND (in), 44 GND (in), 49 GND (in), 50 GND (in), 55 GND (in), 56 GND (in), 61 GND (in), 62 GND (in), 67 GND (in), 68 GND (in), 73 GND (in), 74 GND (in), 79 GND (in), 80 GND (in), 85 GND (in), 86 GND (in), 91 GND (in), 92 GND (in), 97 GND (in), 98 GND (in), 103 GND (in), 104 GND (in), 109 GND (in), 110 GND (in), 115 GND (in), 116 GND (in), 121 GND (in), 122 GND (in), 124 NC (in), 126 NC (in), 127 GND (in), 128 NC (in), 130 NC (in), 132 NC (in), 133 GND (in), 134 GND (in), 139 GND (in), 140 GND (in), 145 GND (in), 146 GND (in), 151 GND (in), 152 GND (in), 154 NC (in), 156 NC (in), 157 GND (in), 158 NC (in), 160 NC (in), 162 NC (in), 163 GND (in), 164 GND (in), 169 GND (in), 170 GND (in), 181 GND (in), 182 GND (in), 187 GND (in), 188 GND (in), 195 GND (in), 196 GND (in)
part A text: Bank 0
part B text: Bank 1

## Raspberry_Pi_3_case
designator MECH?
2 alternate drawings of the same symbol

## Raspberry_PI_3_model
designator MECH?

## RASPBERRYPI_3B
designator MOD?
part A pins: 3 GPIO02/SDA1 (io), 5 GPIO03/SCL1 (io), 7 GCLK/GPIO04 (io), 8 GPIO14/TXD (io), 10 GPIO15/RXD (io), 11 GPIO17 (io), 12 GPIO18/PCM_CLK/PWM0 (in), 13 GPIO27 (io), 15 GPIO22 (io), 16 GPIO23 (io), 18 GPIO24 (io), 19 GPIO10/MOSI (io), 21 GPIO09/MISO (io), 22 GPIO25 (io), 23 GPIO11/SCLK (io), 24 GPIO08/SPI_CE0 (io), 26 GPIO07/SPI_CE1 (io), 27 ID_SD (in) "DONT USE THIS PIN", 28 ID_SC (in) "DONT USE THIS PIN", 29 GPIO05 (io), 31 GPIO06 (io), 32 GPIO12/PWM0 (io), 33 GPIO13 (io), 35 GPIO19/PCM_FS (io), 36 GPIO16 (io), 37 GPIO26 (io), 38 GPIO20/PCM_DIN (in), 40 GPIO21/PCM_DOUT (in)
part B pins: 1 3V3 (in), 2 5V0 (in), 4 5V0 (in), 6 GND, 9 GND, 14 GND, 17 3V3 (in), 20 GND, 25 GND, 30 GND, 34 GND, 39 GND, MH1, MH2, MH3, MH4
part A text: 16mA MAX/PIN; 50mA MAX/PCKG

## RCM05_SAM3
designator MOD?  (value not drawn)
IEEE 802.15.4 compliant RF module -40 to +85 degC
pins: 1 GND (power), 2 URXD0, 3 UTXD0, 4 GND (power), 5 ~{RST}, 6 SWCLK (in), 7 SWDIO, 8 TX_SEL (out), 9 ~{ANT_SEL1} (out), 10 GND (power), 11 GND (power), 12 GND (power), 13 GND (power), 14 GND (power), 15 GND (power), 16 GND (power), 17 GND (power), 18 ANTENNA2, 19 GND (power), 20 GND (power), 21 ANTENNA1, 22 GND (power), 23 GND (power), 24 GND (power), 25 GND (power), 26 GND (power), 27 GND (power), 28 GND (power), 29 +3V3 (power), 30 GND (power), 31 ZB_SCLK (out), 32 ZB_MISO, 33 ZB_MOSI (out), 34 ~{MEM_SS} (out), 35 GND (power), 36 TWD0 (oc), 37 TWCK0 (oc), 38 GND (power), 39 GND (power), 40 GPIO2 (io), 41 GPIO1 (io), 42 TXD0 (out), 43 RXD0, 44 SCK0, 45 GND (power)

## RCM06
designator MOD?
IEEE 802.15.4 compliant RF module -40 to +85 degC
pins: 1 GND (power), 2 GND (power), 3 GND (power), 4 GND (power), 5 GND (power), 6 GND (power), 7 +3V3AMP (power), 8 GND (power), 9 GND (power), 10 GND (power), 11 ~{ANT_SEL1} (out), 12 ~{ANT_SEL2} (out), 13 GND (power), 14 GND (power), 15 +3V3 (power), 16 ZB_SCLK (out), 17 ZB_MOSI (out), 18 ZB_MISO, 19 NPCS0 (out), 20 GND (power), 21 GND (power), 22 TXD0 (out), 23 RXD0, 24 SCK0, 25 GND (power), 26 TWCK0 (oc), 27 TWD0 (oc), 28 ~{RST}, 29 ERASE, 30 UTXD0, 31 URXD0, 32 TDI, 33 TDO, 34 TMS, 35 TCK, 36 GND (power), 37 PB8 (io), 38 PB0 (io), 39 PB1 (io), 40 PB3 (io), 41 GND (power), 42 GND (power), 43 RX_SEL (out), 44 TX_SEL (out), 45 GND (power), 46 GND (power), 47 +3V0 (power), 48 GND (power), 49 GND (power), 50 GND (power), 51 GND (power), 52 GND (power), 53 GND (power), 54 ANTENNA2, 55 GND (power), 56 GND (power), 57 ANTENNA1, 58 GND (power), 59 GND (power)

## RECEPTACLE_CONTACT
designator P?
Header, 3-Pin

## RFSA2013
designator U?  (value not drawn)
pins: 1 GND, 2 NC, 3 RFIN, 4 NC, 5 GND, 6 GND, 7 GND, 8 GND, 9 NC, 10 RFOUT, 11 NC, 12 GND, 13 GND, 14 VC, 15 VDD, 16 MODE, EP1 PAD

## RFSA2033
designator U?  SCH_Footprint: QFN16
pins: 1 GND, 2 GND, 3 RFIN (in), 4 GND, 5 GND, 6 GND, 7 GND, 8 GND, 9 GND, 10 RFOUT (out), 11 GND, 12 ~{EN} (in), 13 NC, 14 VC (in), 15 VDD (in), 16 SLOPE (in), EP1 PAD

## RFSWITCH_CG
designator U?
Value: =value
pins: 1 OUT1, 2 GND (power), 3 OUT2, 4 VCONT2 (in), 5 IN, 6 VCONT1 (in)

## RM14_12PIN_CUSTOM4
designator L?
pins: 1, 2, 3, 4, 5, 6, 7, 8, 9, 10, 11, 12

## RM14_12PIN_CUSTOM5
designator L?
pins: 1, 2, 3, 4, 5, 6, 7, 8, 9, 10, 11, 12

## RM14I_CORE_3C95_4
designator CORE?

## RNxxx
designator LM?  (value not drawn)
SCH_Footprint: *; Value: *
pins: 1, 2, 3, 4

## S_TACTSWITCH
designator S?
pins: 1, 2, 3, 4

## SAW6_1_4
designator U?
Manufacturer Part Number: *
pins: 1 IN (in), 2 GND (power), 3 GND (power), 4 OUT (out), 5 GND (power), 6 GND (power)

## SAW6_2_4
designator U?
Manufacturer Part Number: *
pins: 1 GND (power), 2 IN (in), 3 GND (power), 4 OUT (out), 5 GND (power), 6 GND (power)

## SAW6_2_5
designator U?
Manufacturer Part Number: *
pins: 1 GND (power), 2 IN (in), 3 GND (power), 4 GND (power), 5 OUT (out), 6 GND (power)

## SAW8_1_5
designator U?
Manufacturer Part Number: *
pins: 1 IN (in), 2 GND (power), 3 GND (power), 4 GND (power), 5 OUT (out), 6 GND (power), 7 GND (power), 8 GND (power)

## SAW8_2_6
designator U?
Manufacturer Part Number: *
pins: 1 GND (power), 2 IN (in), 3 GND (power), 4 GND (power), 5 GND (power), 6 OUT (out), 7 GND (power), 8 GND (power)

## SAW8_3_7
designator U?
Manufacturer Part Number: *
pins: 1 GND (power), 2 GND (power), 3 IN (in), 4 GND (power), 5 GND (power), 6 GND (power), 7 OUT (out), 8 GND (power)

## SAW12_10_4
designator U?
SAW IF filter
pins: 1 GND (power), 2 GND (power), 3 GND (power), 4 OUT (out), 5 GND (power), 6 GND (power), 7 GND (power), 8 GND (power), 9 GND (power), 10 IN (in), 11 GND (power), 12 GND (power)
2 alternate drawings of the same symbol

## SAW12_11_5
designator U?
SAW IF filter
pins: 1 GND (power), 2 GND (power), 3 GND (power), 4 GND (power), 5 OUT (out), 6 GND (power), 7 GND (power), 8 GND (power), 9 GND (power), 10 GND (power), 11 IN (in), 12 GND (power)
2 alternate drawings of the same symbol

## SCR38_350
designator L?
pins: 1, 2, 3, 4

## SCREW_COUNTERSUNK_POZIDRIV
designator MECH?

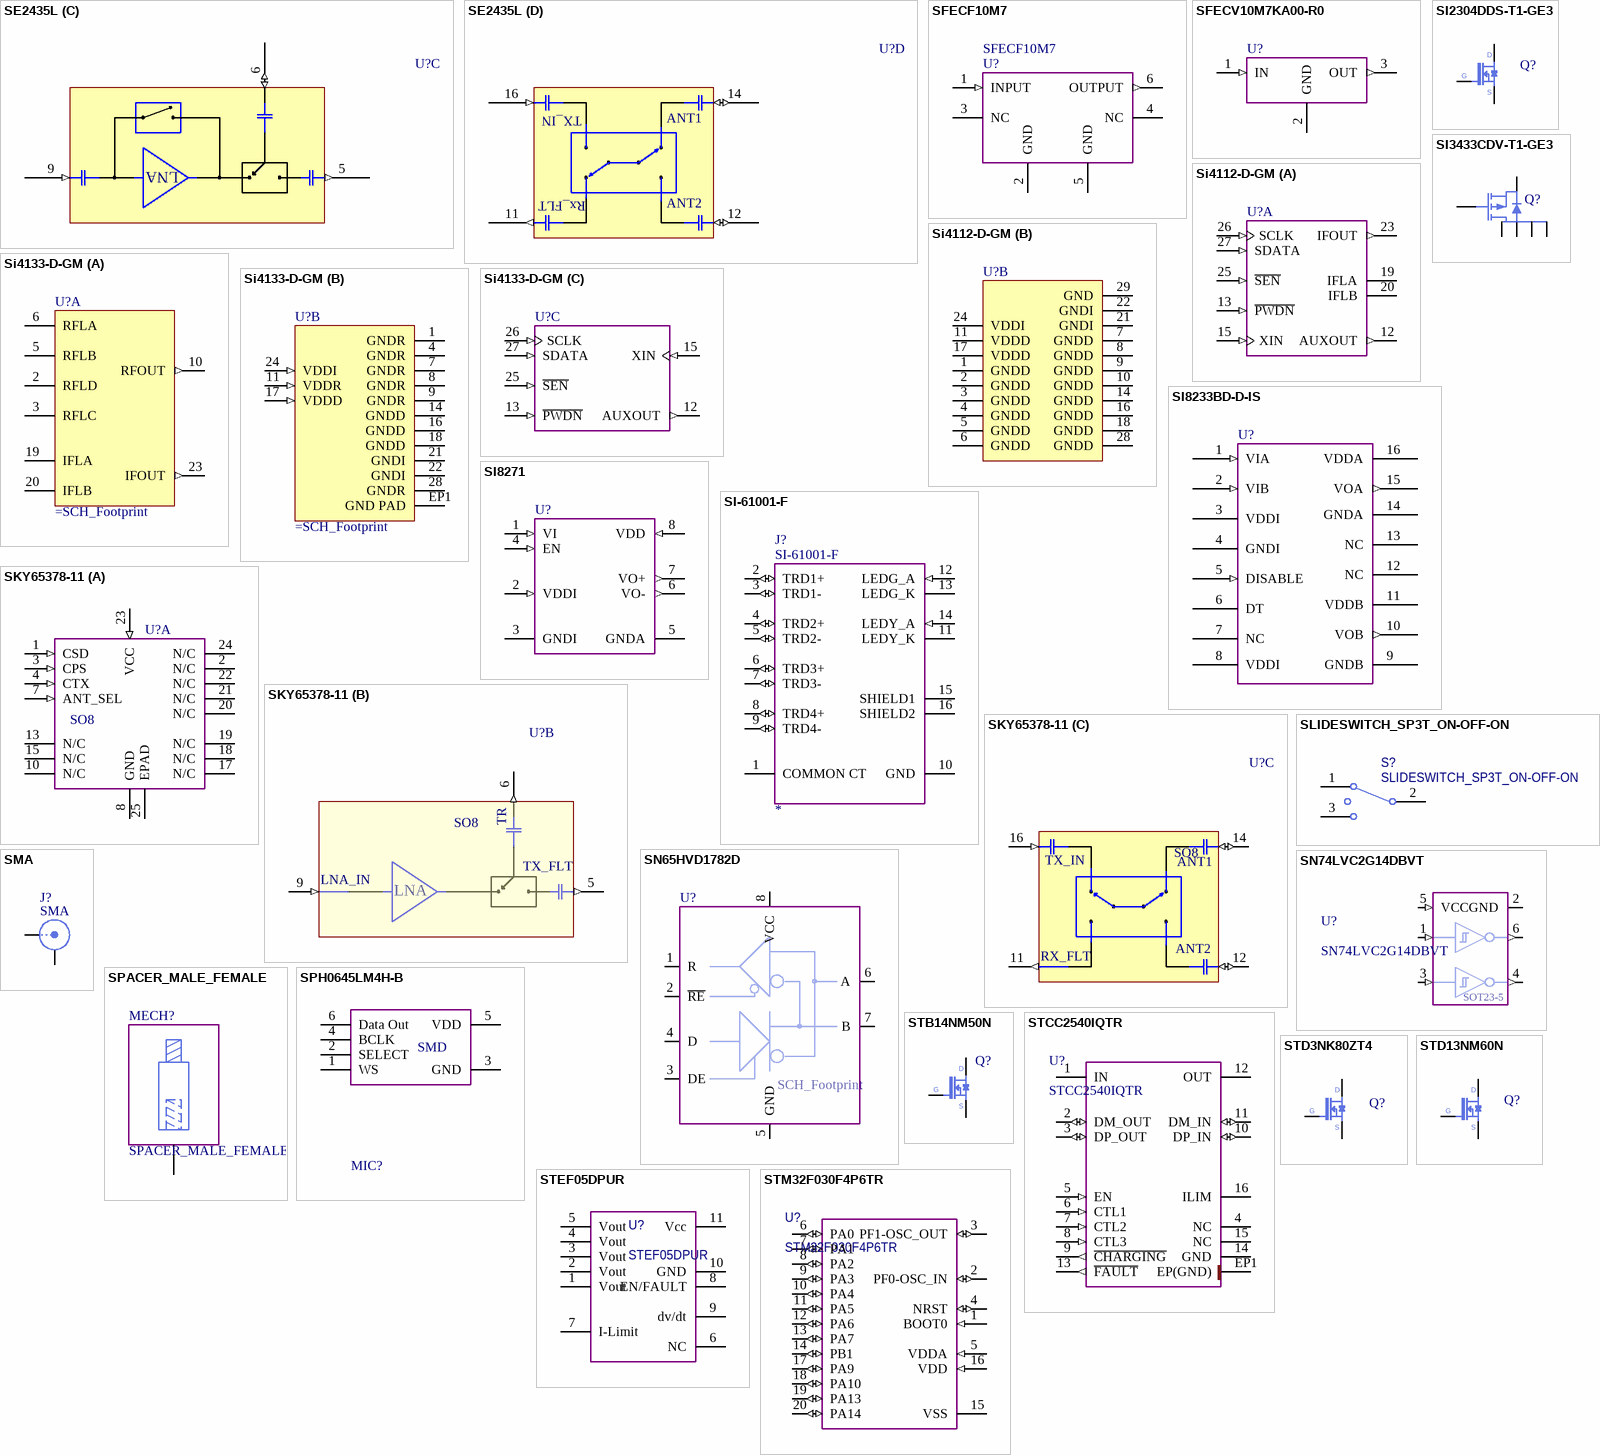
[diagram p10: symbols SE2435L to STM32F030F4P6TR]

## SE2435L
designator U?  (value not drawn)
part A pins: 1 cSD (in), 3 cPS (in), 4 cTX (in), 7 ANT_SEL (in), 8 GND, 10 NC, 13 NC, 15 NC, 17 NC, 18 NC, 19 NC, 21 VCC2, 22 NC, 23 VCC0, 24 VCC1, PAD GND
part B pins: 2 PA_IN (in), 20 PA_OUT (out)
part C pins: 5 TX_FLT (out), 6 TR (io), 9 LNA_IN (in)
part D pins: 11 RX_FLT (out), 12 ANT2 (io), 14 ANT1 (io), 16 TX_IN (in)
part B text: PA
part C text: LNA
part D text: Rx_FLT

## SFECF10M7
designator U?
pins: 1 INPUT (in), 2 GND (power), 3 NC, 4 NC, 5 GND (power), 6 OUTPUT (out)
2 alternate drawings of the same symbol

## SFECV10M7KA00-R0
designator U?  (value not drawn)
U_SFECV10M7KA00-R0
pins: 1 IN (in), 2 GND (power), 3 OUT (out)

## SI2304DDS-T1-GE3
designator Q?  (value not drawn)
pins: 1 G, 2 S, 3 D

## SI3433CDV-T1-GE3
designator Q?  (value not drawn)
pins: 1 D, 2 D, 3 G, 4 S, 5 D, 6 D

## Si4112-D-GM
designator U?  (value not drawn)
part A pins: 12 AUXOUT (out) "Auxiliary output", 13 ~{PWDN} (in) "Powerdown input pin", 15 XIN (in) "Reference frequency amplifier input", 19 IFLA "Pins for inductor connection to IF VCO", 20 IFLB "Pins for inductor connection to IF VCO", 23 IFOUT (out) "Intermediate frequency (IF) output of the IF VCO", 25 ~{SEN} (in) "Enable serial port input", 26 SCLK (in) "Serial clock input", 27 SDATA (in) "Serial data input"
part B pins: 1 GNDD (power) "Common ground for digital circuitry", 2 GNDD (power) "Common ground for digital circuitry", 3 GNDD (power) "Common ground for digital circuitry", 4 GNDD (power) "Common ground for digital circuitry", 5 GNDD (power) "Common ground for digital circuitry", 6 GNDD (power) "Common ground for digital circuitry", 7 GNDD (power) "Common ground for digital circuitry", 8 GNDD (power) "Common ground for digital circuitry", 9 GNDD (power) "Common ground for digital circuitry", 10 GNDD (power) "Common ground for digital circuitry", 11 VDDD (power) "Supply voltage for digital circuitry", 14 GNDD (power) "Common ground for digital circuitry", 16 GNDD (power) "Common ground for digital circuitry", 17 VDDD (power) "Supply voltage for digital circuitry", 18 GNDD (power) "Common ground for digital circuitry", 21 GNDI (power) "Common ground for IF analog circuitry", 22 GNDI (power) "Common ground for IF analog circuitry", 24 VDDI (power) "Supply voltage for IF analog circuitry", 28 GNDD (power) "Common ground for digital circuitry", 29 GND (power)

## Si4133-D-GM
designator U?  (value not drawn)
part A pins: 2 RFLD "Common ground for digital circuitry", 3 RFLC "Common ground for digital circuitry", 5 RFLB "Common ground for digital circuitry", 6 RFLA "Common ground for digital circuitry", 10 RFOUT (out) "Common ground for digital circuitry", 19 IFLA "Pins for inductor connection to IF VCO", 20 IFLB "Pins for inductor connection to IF VCO", 23 IFOUT (out) "Intermediate frequency (IF) output of the IF VCO"
part B pins: 1 GNDR (power) "Common ground for digital circuitry", 4 GNDR (power) "Common ground for digital circuitry", 7 GNDR (power) "Common ground for digital circuitry", 8 GNDR (power) "Common ground for digital circuitry", 9 GNDR (power) "Common ground for digital circuitry", 11 VDDR (in) "Supply voltage for digital circuitry", 14 GNDD (power) "Common ground for digital circuitry", 16 GNDD (power) "Common ground for digital circuitry", 17 VDDD (in) "Supply voltage for digital circuitry", 18 GNDD (power) "Common ground for digital circuitry", 21 GNDI (power) "Common ground for IF analog circuitry", 22 GNDI (power) "Common ground for IF analog circuitry", 24 VDDI (in) "Supply voltage for IF analog circuitry", 28 GNDR (power) "Common ground for digital circuitry", EP1 GND PAD (power)
part C pins: 12 AUXOUT (out) "Auxiliary output", 13 ~{PWDN} (in) "Powerdown input pin", 15 XIN (in) "Reference frequency amplifier input", 25 ~{SEN} (in) "Enable serial port input", 26 SCLK (in) "Serial clock input", 27 SDATA (in) "Serial data input"

## SI8233BD-D-IS
designator U?  (value not drawn)
pins: 1 VIA (in), 2 VIB (in), 3 VDDI (power), 4 GNDI (power), 5 DISABLE (in), 6 DT, 7 NC, 8 VDDI (power), 9 GNDB (power), 10 VOB (out), 11 VDDB (power), 12 NC, 13 NC, 14 GNDA (power), 15 VOA (out), 16 VDDA (power)

## SI8271
designator U?  (value not drawn)
pins: 1 VI (in), 2 VDDI (in), 3 GNDI, 4 EN (in), 5 GNDA, 6 VO- (out), 7 VO+ (out), 8 VDD (in)

## SI-61001-F
designator J?
Ethernet connector; SCH_Footprint: *
pins: 1 COMMON CT, 2 TRD1+ (io), 3 TRD1- (io), 4 TRD2+ (io), 5 TRD2- (io), 6 TRD3+ (io), 7 TRD3- (io), 8 TRD4+ (io), 9 TRD4- (io), 10 GND (power), 11 LEDY_K (power), 12 LEDG_A (in), 13 LEDG_K (power), 14 LEDY_A (in), 15 SHIELD1 (power), 16 SHIELD2 (power)
2 alternate drawings of the same symbol

## SKY65378-11
designator U?  SCH_Footprint: SO8  (hidden comment: SKY65378-11)
part A pins: 1 CSD (in), 2 N/C, 3 CPS (in), 4 CTX (in), 7 ANT_SEL (in), 8 GND, 10 N/C, 13 N/C, 15 N/C, 17 N/C, 18 N/C, 19 N/C, 20 N/C, 21 N/C, 22 N/C, 23 VCC (in), 24 N/C, 25 EPAD
part B pins: 5 TX_FLT (out), 6 TR (out), 9 LNA_IN (in)
part C pins: 11 RX_FLT (out), 12 ANT2 (io), 14 ANT1 (io), 16 TX_IN (in)
2 alternate drawings of the same symbol
part B text: LNA

## SLIDESWITCH_SP3T_ON-OFF-ON
designator S?
pins: 1, 2, 3

## SMA
designator J?
SMA connector
pins: 1 X, 2 Y

## SN65HVD1782D
designator U?  (value not drawn)
SCH_Footprint: SCH_Footprint
pins: 1 R, 2 ~{RE}, 3 DE, 4 D, 5 GND, 6 A, 7 B, 8 VCC

## SN74LVC2G14DBVT
designator U?  SCH_Footprint: SOT23-5
pins: 1 1A (in), 2 GND, 3 2A (in), 4 2Y (out), 5 VCC (in), 6 1Y (out)

## SPACER_MALE_FEMALE
designator MECH?
pins: 1 PAD

## SPH0645LM4H-B
designator MIC?  SCH_Footprint: SMD  (hidden comment: SPH0645LM4H-B)
ComponentLink2Description: Datasheet; ComponentLink1URL: https://upverter.com/upn/revision/e8c281934175caef/; ComponentLink1Description: Upverter; ComponentLink2URL: http://www.knowles.com/eng/content/download/5988/105771/version/4/file/SPH0645LM4H-BRevB.PDF
pins: 1 WS, 2 SELECT, 3 GND, 4 BCLK, 5 VDD, 6 Data Out

## STB14NM50N
designator Q?  (value not drawn)
pins: 1 G, 3 S, 4 D

## STCC2540IQTR
designator U?
pins: 1 IN (power), 2 DM_OUT (io), 3 DP_OUT (io), 4 NC, 5 EN (in), 6 CTL1 (in), 7 CTL2 (in), 8 CTL3 (in), 9 ~{CHARGING} (out), 10 DP_IN (io), 11 DM_IN (io), 12 OUT (power), 13 ~{FAULT} (out), 14 GND (power), 15 NC, 16 ILIM, EP1 EP(GND) (power)

## STD3NK80ZT4
designator Q?  (value not drawn)
pins: 1 G, 2 D, 3 S

## STD13NM60N
designator Q?  (value not drawn)
pins: 1 G, 2 D, 3 S

## STEF05DPUR
designator U?
pins: 1 Vout, 2 Vout, 3 Vout, 4 Vout, 5 Vout, 6 NC, 7 I-Limit, 8 EN/FAULT, 9 dv/dt, 10 GND, 11 Vcc

## STM32F030F4P6TR
designator U?
pins: 1 BOOT0 (in), 2 PF0-OSC_IN (io), 3 PF1-OSC_OUT (io), 4 NRST (io), 5 VDDA (in), 6 PA0 (io), 7 PA1 (io), 8 PA2 (io), 9 PA3 (io), 10 PA4 (io), 11 PA5 (io), 12 PA6 (io), 13 PA7 (io), 14 PB1 (io), 15 VSS (power), 16 VDD (in), 17 PA9 (io), 18 PA10 (io), 19 PA13 (io), 20 PA14 (io)

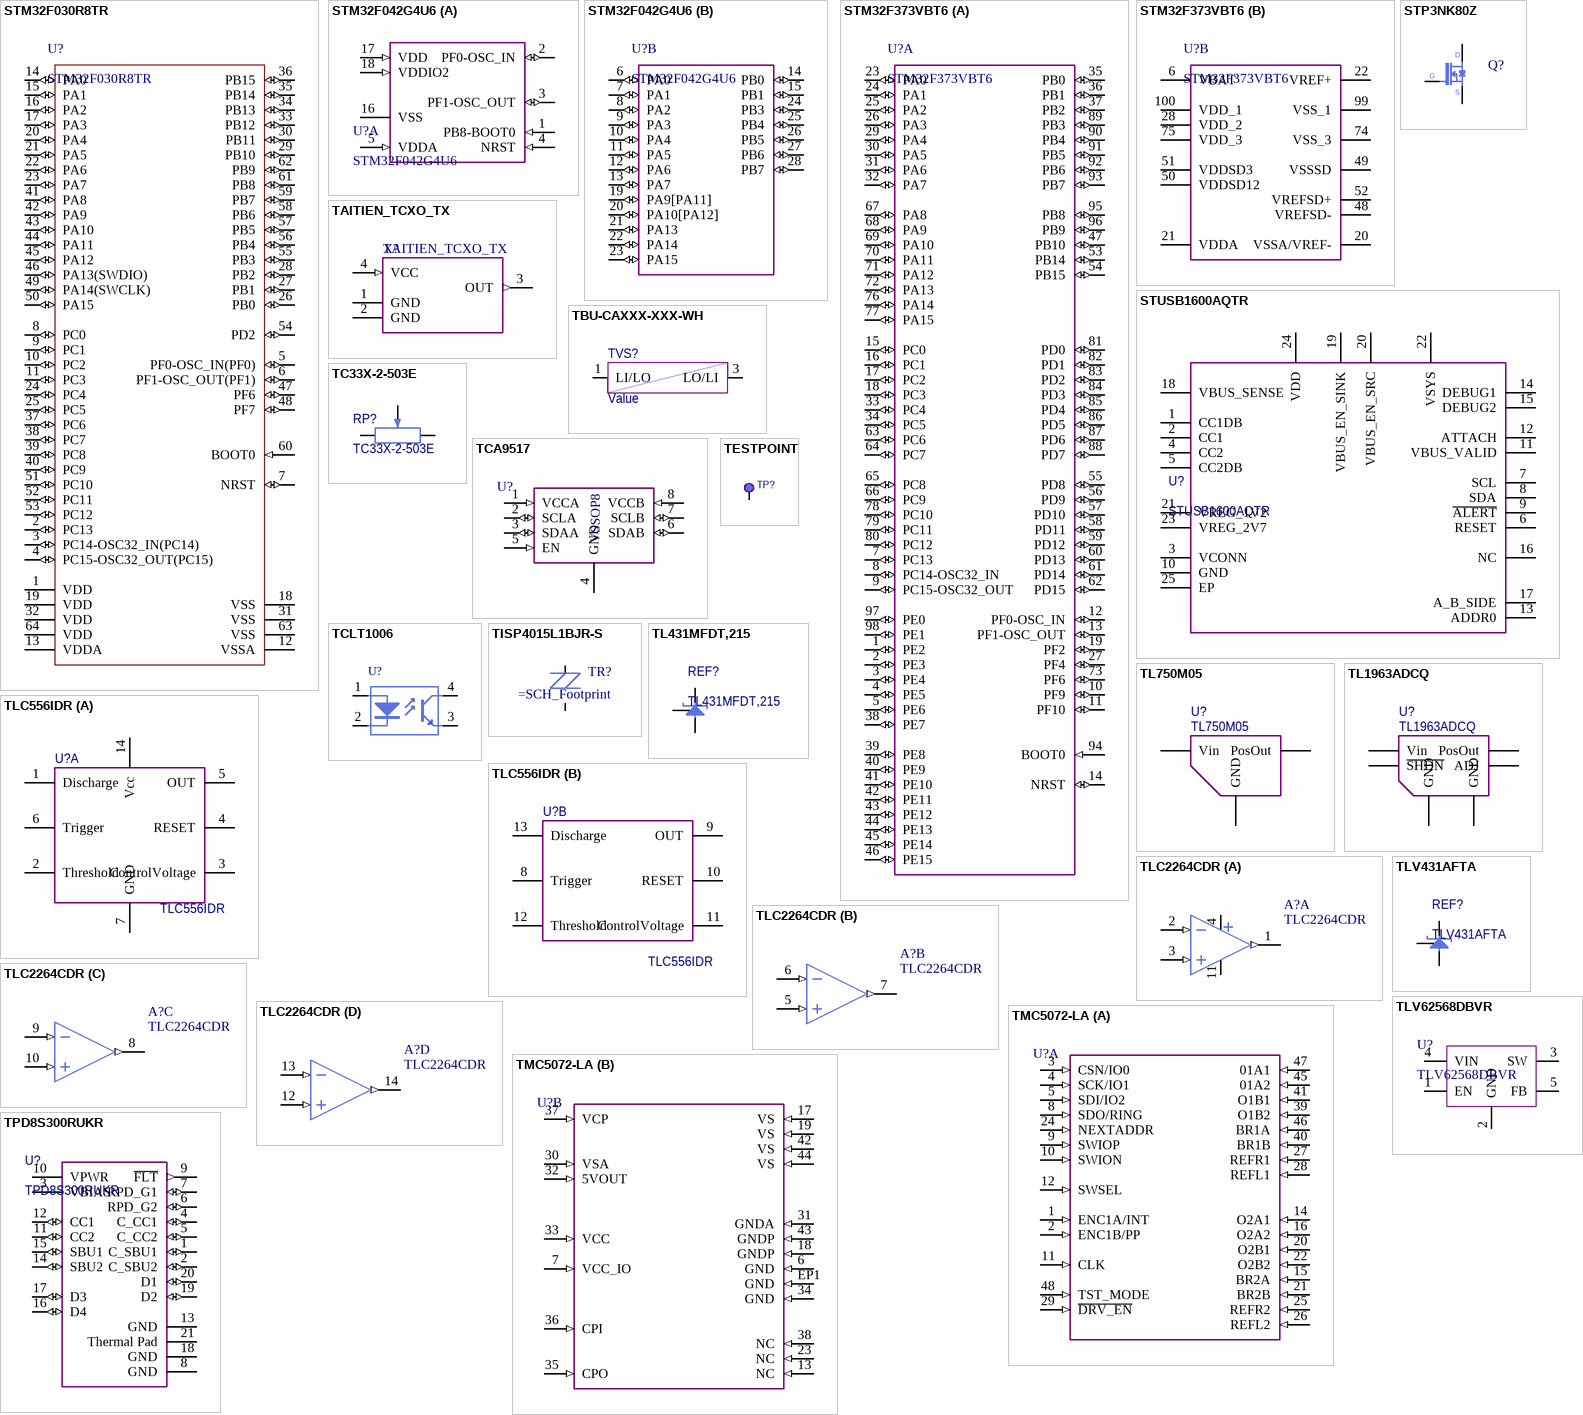
[diagram p11: symbols STM32F030R8TR to TPD8S300RUKR]

## STM32F030R8TR
designator U?
pins: 1 VDD (power) "Complementary power supply", 2 PC13 (io) "PC13/RTC_TAMP1,RTC_TS,RTC_OUT,WKUP2", 3 PC14-OSC32_IN(PC14) (io) "PC14-OSC32_IN(PC14)/OSC32_IN", 4 PC15-OSC32_OUT(PC15) (io) "PC15-OSC32_OUT(PC15)/OSC32_OUT", 5 PF0-OSC_IN(PF0) (io) "PF0-OSC_IN(PF0)/I2C1_SDA/OSC_IN", 6 PF1-OSC_OUT(PF1) (io) "PF1-OSC_OUT(PF1)/I2C1_SCL/OSC_OUT", 7 NRST (io) "Device reset input/internal reset output(active low)", 8 PC0 (io) "PC0/EVENTOUT,USART6_TX,USART7_TX/ADC_IN10", 9 PC1 (io) "PC1/EVENTOUT,USART6_RX,USART7_RX/ADC_IN11", 10 PC2 (io) "PC2/SPI2_MISO,EVENTOUT/ADC_IN12", 11 PC3 (io) "PC3/SPI2_MOSI,EVENTOUT/ADC_IN13", 12 VSSA (power) "Analog ground", 13 VDDA (power) "Analog power supply", 14 PA0 (io) "PA0/USART2_CTS,USART4_TX/ADC_IN0,RTC_TAMP2,WKUP1", 15 PA1 (io) "PA1/USART2_RTS,EVENTOUT,USART4_RX/ADC_IN1", 16 PA2 (io) "PA2/USART2_TX,TIM15_CH1/ADC_IN2", 17 PA3 (io) "PA3/USART2_RX,TIM15_CH2/ADC_IN3", 18 VSS (power) "Ground", 19 VDD (power) "Digital power supply", 20 PA4 (io) "PA4/SPI1_NSS,USART2_CK,TIM14_CH1,USART6_TX/ADC_IN4", 21 PA5 (io) "PA5/SPI1_SCK,USART6_RX/ADC_IN5", 22 PA6 (io) "PA6/SPI1_MISO,TIM3_CH1,TIM1_BKIN,TIM16_CH1,EVENTOUT,USART3_CTS/ADC_IN6", 23 PA7 (io) "PA7/SPI1_MOSI,TIM3_CH2,TIM14_CH1,TIM1_CH1N,TIM17_CH1,EVENTOUT/ADC_IN7", 24 PC4 (io) "PC4/EVENTOUT,USART3_TX/ADC_IN14", 25 PC5 (io) "PC5/USART3_RX/ADC_IN15", 26 PB0 (io) "PB0/TIM3_CH3,TIM1_CH2N,EVENTOUT,USART3_CK/ADC_IN8", 27 PB1 (io) "PB1/TIM3_CH4,TIM14_CH1,TIM1_CH3N,USART3_RTS/ADC_IN9", 28 PB2 (io), 29 PB10 (io) "PB10/SPI2_SCK,I2C2_SCL,USART3_TX", 30 PB11 (io) "PB11/I2C2_SDA,EVENTOUT,USART3_RX", 31 VSS (power) "Ground", 32 VDD (power) "Digital power supply", 33 PB12 (io) "PB12/SPI2_NSS,TIM1_BKIN,EVENTOUT,USART3_CK", 34 PB13 (io) "PB13/SPI2_SCK,I2C2_SDA,TIM1_CH1N,USART3_CTS", 35 PB14 (io) "PB14/SPI2_MISO,I2C2_SDA,TIM1_CH2N,TIM15_CH1,USART3_RTS", 36 PB15 (io) "PB15/SPI2_MOSI,TIM1_CH3N,TIM15_CH1N,TIM15_CH2/RTC_REFIN", 37 PC6 (io) "PC6/TIM3_CH1", 38 PC7 (io) "PC7/TIM3_CH2", 39 PC8 (io) "PC8/TIM3_CH3", 40 PC9 (io) "PC9/TIM3_CH4", 41 PA8 (io) "PA8/USART1_CK,TIM1_CH1,EVENTOUT,MCO", 42 PA9 (io) "PA9/USART1_TX,TIM1_CH2,TIM15_BKIN,I2C1_SCL", 43 PA10 (io) "PA10/USART1_RX,TIM1_CH3,TIM17_BKIN,I2C1_SDA", 44 PA11 (io) "PA11/USART1_CTS,TIM1_CH4,EVENTOUT,I2C2_SCL", 45 PA12 (io) "PA12/USART1_RTS,TIM1_ETR,EVENTOUT,I2C2_SDA", 46 PA13(SWDIO) (io) "PA13(SWDIO)/IR_OUT,SWDIO", 47 PF6 (io) "PF6/I2C1_SCL,I2C2_SCL", 48 PF7 (io) "PF7/I2C1_SDA,I2C2_SDA", 49 PA14(SWCLK) (io) "PA14(SWCLK)/USART2_TX,SWCLK", 50 PA15 (io) "PA15/SPI1_NSS,USART2_RX,USART4_RTS,EVENTOUT", 51 PC10 (io) "PC10/USART3_TX,USART4_TX", 52 PC11 (io) "PC11/USART3_RX,USART4_RX", 53 PC12 (io) "PC12/USART3_CK,USART4_CK,USART5_TX", 54 PD2 (io) "PD2/TIM3_ETR,USART3_RTS,USART5_RX", 55 PB3 (io) "PB3/SPI1_SCK,EVENTOUT,USART5_TX", 56 PB4 (io) "PB4/SPI1_MISO,TIM3_CH1,EVENTOUT,TIM17_BKIN,USART5_RX", 57 PB5 (io) "PB5/SPI1_MOSI,I2C1_SMBA,TIM16_BKIN,TIM3_CH2,USART5_CK_RTS", 58 PB6 (io) "PB6/I2C1_SCL,USART1_TX,TIM16_CH1N", 59 PB7 (io) "PB7/I2C1_SDA,USART1_RX,TIM17_CH1N,USART4_CTS", 60 BOOT0 (in) "Boot memory selection", 61 PB8 (io) "PB8/I2C1_SCL,TIM16_CH1", 62 PB9 (io) "PB9/I2C1_SDA,IR_OUT,SPI2_NSS,TIM17_CH1,EVENTOUT", 63 VSS (power) "Ground", 64 VDD (power) "Digital power supply"

## STM32F042G4U6
designator U?
part A pins: 1 PB8-BOOT0 (in), 2 PF0-OSC_IN (io), 3 PF1-OSC_OUT (io), 4 NRST (in), 5 VDDA (in), 16 VSS (power), 17 VDD (in), 18 VDDIO2 (in)
part B pins: 6 PA0 (io), 7 PA1 (io), 8 PA2 (io), 9 PA3 (io), 10 PA4 (io), 11 PA5 (io), 12 PA6 (io), 13 PA7 (io), 14 PB0 (io), 15 PB1 (io), 19 PA9[PA11] (io), 20 PA10[PA12] (io), 21 PA13 (io), 22 PA14 (io), 23 PA15 (io), 24 PB3 (io), 25 PB4 (io), 26 PB5 (io), 27 PB6 (io), 28 PB7 (io)

## STM32F373VBT6
designator U?
part A pins: 1 PE2 (io) "PE2/TSC_G7_IO1,TRACECLK", 2 PE3 (io) "PE3/TSC_G7_IO2,TRACED0", 3 PE4 (io) "PE4/TSC_G7_IO3,TRACED1", 4 PE5 (io) "PE5/TSC_G7_IO4,TRACED2", 5 PE6 (io) "PE6/TRACED3/WKUP3,RTC_TAMPER3", 7 PC13 (io) "PC13/WKUP2_ALARM_OUT_CALIB_OUT_TIMESTAMP,RTC_TAMPER1", 8 PC14-OSC32_IN (io) "PC14-OSC32_IN/OSC32_IN", 9 PC15-OSC32_OUT (io) "PC15-OSC32_OUT/OSC32_OUT", 10 PF9 (io) "PF9/TIM14_CH1", 11 PF10 (io), 12 PF0-OSC_IN (io) "PF0-OSC_IN/I2C2_SDA/OSC_IN", 13 PF1-OSC_OUT (io) "PF1-OSC_OUT/I2C2_SCL/OSC_OUT", 14 NRST (io) "Device reset input / internal reset output (active low)", 15 PC0 (io) "PC0/TIM5_CH1_ETR/ADC_IN10", 16 PC1 (io) "PC1/TIM5_CH2/ADCIN11", 17 PC2 (io) "PC2/SPI2_MISO/I2S2_MCK,TIM5_CH3/ADC_IN12", 18 PC3 (io) "PC3/SPI2_MOSI/I2S2_SD,TIM5_CH4/ADC_IN13", 19 PF2 (io) "PF2/I2C2_SMBA", 23 PA0 (io) "PA0/USART2_CTS,TIM2_CH1_ETR,TIM5_CH1_ETR,TIM19_CH1,TSC_G1_IO1,COMP1_OUT/RTC_TAMPER2,WKUP1,ADC_IN0,COMP1_INM", 24 PA1 (io) "PA1/SPI3_SCK/I2S3_CK,USART2_RTS,TIM2_CH2,TIM15_CH1N,TIM5_CH2,TIM19_CH2,TSC_G1_IO2/ADC_IN1,COMP1_INP,RTC_REF_CLK_IN", 25 PA2 (io) "PA2/COMP2_OUT,SPI3_MISO/I2S3_MCK,USART2_TX,TIM2_CH3,TIM15_CH1,TIM5_CH3,TIM19_CH3,TSC_G1_IO3/ADC_IN2,COMP2_INM", 26 PA3 (io) "PA3/SPI3_MOSI,I2S3_SD,USART2_RX,TIM2_CH4,TIM15_CH2,TIM5_CH4,TIM19_CH4,TSC_G1_IO4/ADC_IN3,COMP2_INP", 27 PF4 (io), 29 PA4 (io) "PA4/SPI1_NSS/I2S1_WS,SPI3_NSS/I2S3_WS,USART2_CK,TIM3_CH2,TIM12_CH1,TSC_G2_IO1/ADC_IN4,DAC1_OUT1", 30 PA5 (io) "PA5/SPI1_SCK/I2S1_CK,CEC,TIM2_CH1_ETR,TIM14_CH1,TIM12_CH2,TSC_G2_IO2/ADC_IN5,DAC1_OUT2", 31 PA6 (io) "PA6/SPI1_MISO/I2S1_MCK,COMP1_OUT,TIM3_CH1,TIM13_CH1,TIM16_CH1,TSC_G2_IO3/ADC_IN6,DAC2_OUT1", 32 PA7 (io) "PA7/TSC_G2_IO4,TIM14_CH1,SPI1_MOSI/I2S1_SD,TIM17_CH1,TIM3_CH2,COMP2_OUT/ADC_IN7", 33 PC4 (io) "PC4/TIM13_CH1,TSC_G3_IO1,USART1_TX/ADC_IN14", 34 PC5 (io) "PC5/TSC_G3_IO2,USART1_RX/ADC_IN15", 35 PB0 (io) "PB0/SPI1_MOSI/I2S1_SD,TIM3_CH3,TSC_G3_IO3,TIM3_CH2/ADC_IN8,SDADC1_AIN6P", 36 PB1 (io) "PB1/TIM3_CH4,TSC_G3_IO4/ADC_IN9,SDADC1_AIN5P,SDADC1_AIN6M", 37 PB2 (io) "PB2/SDADC1_AIN4P,SDADC2_AIN6P", 38 PE7 (io) "PE7/SDADC1_AIN3P,SDADC1_AIN4M,SDADC2_AIN5P,SDADC2_AIN6M", 39 PE8 (io) "PE8/SDADC1_AIN8P,SDADC2_AIN8P", 40 PE9 (io) "PE9/SDADC1_AIN7P,SDADC1_AIN8M,SDADC2_AIN7P,SDADC2_AIN8M", 41 PE10 (io) "PE10/SDADC1_AIN2P", 42 PE11 (io) "PE11/SDADC1_AIN1P,SDADC1_AIN2M,SDADC2_AIN4P", 43 PE12 (io) "PE12/SDADC1_AIN0P,SDADC2_AIN3P,SDADC2_AIN4M", 44 PE13 (io) "PE13/SDADC1_AIN0M,SDADC2_AIN2P", 45 PE14 (io) "PE14/SDADC2_AIN1P,SDADC2_AIN2M", 46 PE15 (io) "PE15/USART3_RX/SDADC2_AIN0P", 47 PB10 (io) "PB10/SPI2_SCK/I2S2_CK,USART3_TX,CEC,TSC_SYNC,TIM2_CH3/SDADC2_AIN0M", 53 PB14 (io) "PB14/SPI2_MISO/I2S2_MCK,USART3_RTS,TIM15_CH1,TIM12_CH1,TSC_G6_IO1/SDADC3_AIN8P", 54 PB15 (io) "PB15/SPI2_MOSI/I2S2_SD,TIM15_CH1N,TIM15_CH2,TIM12_CH2,TSC_G6_IO2/SDADC3_AIN7P,SDADC3_AIN8M,RTC_REFCLKIN", 55 PD8 (io) "PD8/SPI2_SCK/I2S2_CK,USART3_TX,TSC_G6_IO3/SDADC3_AIN6P", 56 PD9 (io) "PD9/USART3_RX,TSC_G6_IO4/SDADC3_AIN5P,SDADC3_AIN6M", 57 PD10 (io) "PD10/USART3_CK/SDADC3_AIN4P", 58 PD11 (io) "PD11/USART3_CTS/SDADC3_AIN3P,SDADC3_AIN4M", 59 PD12 (io) "PD12/USART3_RTS,TIM4_CH1,TSC_G8_IO1/SDADC3_AIN2P", 60 PD13 (io) "PD13/TIM4_CH2,TSC_G8_IO2/SDADC3_AIN1P,SDADC3_AIN2M", 61 PD14 (io) "PD14/TIM4_CH3,TSC_G8_IO3/SDADC3_AIN0P", 62 PD15 (io) "PD15/TIM4_CH4,TSC_G8_IO4/SDADC3_AIN0M", 63 PC6 (io) "PC6/TIM3_CH1,SPI1_NSS/I2S1_WS", 64 PC7 (io) "PC7/TIM3_CH2,SPI1_SCK/I2S1_CK", 65 PC8 (io) "PC8/SPI1_MISO/I2S1_MCK,TIM3_CH3", 66 PC9 (io) "PC9/SPI1_MOSI/I2S1_SD,TIM3_CH4", 67 PA8 (io) "PA8/SPI2_SCK/I2S2_CK,I2C2_SMBA,USART1_CK,TIM4_ETR,TIM5_CH1_ETR,MCO", 68 PA9 (io) "PA9/SPI2_MISO/I2S2_MCK,I2C2_SCL,USART1_TX,TIM2_CH3,TIM15_BKIN,TIM13_CH1,TSC_G4_IO1", 69 PA10 (io) "PA10/SPI2_MOSI/I2S2_SD,I2C2_SDA,USART1_RX,TIM2_CH4,TIM17_BKIN,TIM14_CH1,TSC_G4_IO2", 70 PA11 (io) "PA11/SPI2_NSS/I2S2_WS,SPI1_NSS/I2S1_WS,USART1_CTS,CAN_RX,TIM4_CH1,USB_DM,TIM5_CH2,COMP1_OUT", 71 PA12 (io) "PA12/SPI1_SCK/I2S1_CK,USART1_RTS,CAN_TX,USB_DP,TIM16_CH1,TIM4_CH2,TIM5_CH3,COMP2_OUT", 72 PA13 (io) "PA13/SPI1_MISO/I2S1_MCK,USART3_CTS,IR_OUT,TIM16_CH1N,TIM4_CH3,TIM5_CH4,TSC_G4_IO3,SWDIO-JTMS", 73 PF6 (io) "PF6/SPI1_MOSI,I2S1_SD,USART3_RTS,TIM4_CH4,I2C2_SCL", 76 PA14 (io) "PA14/I2C1_SDA,TIM12_CH1,TSC_G4_IO4,SWCLK-JTCK", 77 PA15 (io) "PA15/SPI1_NSS/I2S1_WS,SPI3_NSS/I2S3_WS,I2C1_SCL,TIM2_CH1_ETR,TIM12_CH2,TSC_SYNC,JTDI", 78 PC10 (io) "PC10/SPI3_SCK/I2S3_CK,USART3_TX,TIM19_CH1", 79 PC11 (io) "PC11/SPI3_MISO/I2S3_MCK,USART3_RX,TIM19_CH2", 80 PC12 (io) "PC12/SPI3_MOSI/I2S3_SD,USART3_CK,TIM19_CH3", 81 PD0 (io) "PD0/CAN_RX,TIM19_CH4", 82 PD1 (io) "PD1/CAN_TX,TIM19_ETR", 83 PD2 (io) "PD2/TIM3_ETR", 84 PD3 (io) "PD3/SPI2_MISO/I2S2_MCK,USART2_CTS", 85 PD4 (io) "PD4/SPI2_MOSI/I2S2_SD,USART2_RTS", 86 PD5 (io) "PD5/USART2_TX", 87 PD6 (io) "PD6/SPI2_NSS/I2S2_WS,USART2_RX", 88 PD7 (io) "PD7/SPI2_SCK/I2S2_CK,USART2_CK", 89 PB3 (io) "PB3/SPI1_SCK/I2S1_CK,SPI3_SCK/I2S3_CK,USART2_TX,TIM2_CH2,TIM3_ETR,TIM4_ETR,TIM13_CH1,TSC_G5_IO1,JTDO-TRACESWO", 90 PB4 (io) "PB4/SPI1_MISO/I2S1_MCK,SPI3_MISO/I2S3_MCK,USART2_RX,TIM16_CH1,TIM3_CH1,TIM17_BKIN,TIM15_CH1N,TSC_G5_IO2,NJTRST", 91 PB5 (io) "PB5/SPI1_MOSI/I2S1_SD,SPI3_MOSI/I2S3_SD,I2C1_SMBAI,USART2_CK,TIM16_BKIN,TIM3_CH2,TIM17_CH1,TIM19_ETR", 92 PB6 (io) "PB6/I2C1_SCL,USART1_TX,TIM16_CH1N,TIM3_CH3,TIM4_CH1,TIM19_CH1,TIM15_CH1,TSC_G5_IO3", 93 PB7 (io) "PB7/I2C1_SDA,USART1_RX,TIM17_CH1N,TIM3_CH4,TIM4_CH2,TIM19_CH2,TIM15_CH2,TSC_G5_IO4", 94 BOOT0 (in) "Boot memory selection", 95 PB8 (io) "PB8/SPI2_SCK/I2S2_CK,I2C1_SCL,USART3_TX,CAN_RX,CEC,TIM16_CH1,TIM4_CH3,TIM19_CH3,COMP1_OUT,TSC_SYNC", 96 PB9 (io) "PB9/SPI2_NSS/I2S2_WS,I2C1_SDA,USART3_RX,CAN_TX,IR_OUT,TIM17_CH1,TIM4_CH4,TIM19_CH4,COMP2_OUT", 97 PE0 (io) "PE0/USART1_TX,TIM4_ETR", 98 PE1 (io) "PE1/USART1_RX"
part B pins: 6 VBAT (power) "Backup power supply", 20 VSSA/VREF- (power) "Analog ground", 21 VDDA (power) "Analog power supply", 22 VREF+ (power) "Reference voltage for ADC, COMP, DAC", 28 VDD_2 (power) "Digital power supply", 48 VREFSD- (power) "External reference voltage for SDADC1, SDADC2, SDADC3 (negative input)", 49 VSSSD (power) "SDADC1, SDADC2, SDADC3 ground", 50 VDDSD12 (power) "SDADC1 and SDADC2 power supply", 51 VDDSD3 (power) "SDADC3 power supply", 52 VREFSD+ (power) "External reference voltage for SDADC1, SDADC2, SDADC3 (positive input)", 74 VSS_3 (power) "Ground", 75 VDD_3 (power) "Digital power supply", 99 VSS_1 (power) "Ground", 100 VDD_1 (power) "Digital power supply"

## STP3NK80Z
designator Q?  (value not drawn)
pins: 1 G, 2 D, 3 S

## STUSB1600AQTR
designator U?
pins: 1 CC1DB, 2 CC1, 3 VCONN, 4 CC2, 5 CC2DB, 6 RESET, 7 SCL, 8 SDA, 9 ~{ALERT}, 10 GND, 11 VBUS_VALID, 12 ATTACH, 13 ADDR0, 14 DEBUG1, 15 DEBUG2, 16 NC, 17 A_B_SIDE, 18 VBUS_SENSE, 19 VBUS_EN_SINK, 20 VBUS_EN_SRC, 21 VREG_1V2, 22 VSYS, 23 VREG_2V7, 24 VDD, 25 EP

## TAITIEN_TCXO_TX
designator X?
pins: 1 GND (power), 2 GND (power), 3 OUT (out), 4 VCC (in)

## TBU-CAXXX-XXX-WH
designator TVS?  (value not drawn)
Bidirectional High-Speed Overcurrent Protector.; Value: Value
pins: 1 LI/LO, 3 LO/LI

## TC33X-2-503E
designator RP?
pins: 1, 2, 3

## TCA9517
designator U?  SCH_Footprint: VSSOP8  (hidden comment: TCA9517)
pins: 1 VCCA (in), 2 SCLA (io), 3 SDAA (io), 4 GND, 5 EN (in), 6 SDAB (io), 7 SCLB (io), 8 VCCB (in)

## TCLT1006
designator U?  (value not drawn)
Optoisolator
pins: 1 A, 2 K, 3 E, 4 C

## TESTPOINT
designator TP?  (value not drawn)  (no BOM)
pins: 1 TP

## TISP4015L1BJR-S
designator TR?  (value not drawn)
Thyristor Surge Protection Devices 8V 22A 2-Pin SMB
pins: 1, 2

## TL431MFDT,215
designator REF?
pins: 1 REF, 2 C, 3 A

## TL750M05
designator U?
pins: 1 Vin, 3 PosOut, 4 GND

## TL1963ADCQ
designator U?
pins: 1 ~{SHDN}, 2 Vin, 3 GND, 4 PosOut, 5 ADJ, 6 GND

## TLC556IDR
designator U?
part A pins: 1 Discharge, 2 Threshold, 3 ControlVoltage, 4 RESET, 5 OUT, 6 Trigger, 7 GND, 14 Vcc
part B pins: 8 Trigger, 9 OUT, 10 RESET, 11 ControlVoltage, 12 Threshold, 13 Discharge

## TLC2264CDR
designator A?
part A pins: 1 OUT1 (out), 2 IN-1 (in), 3 IN+1 (in), 4 VDD (power), 11 GND (power)
part B pins: 5 IN+2 (in), 6 IN-2 (in), 7 OUT2 (out)
part C pins: 8 OUT3 (out), 9 IN-3 (in), 10 IN+3 (in)
part D pins: 12 IN+4 (in), 13 IN-4 (in), 14 OUT4 (out)

## TLV431AFTA
designator REF?
pins: 1 REF, 2 C, 3 A

## TLV62568DBVR
designator U?
pins: 1 EN, 2 GND, 3 SW, 4 VIN, 5 FB

## TMC5072-LA
designator U?  (value not drawn)
part A pins: 1 ENC1A/INT (in), 2 ENC1B/PP (in), 3 CSN/IO0 (in), 4 SCK/IO1 (in), 5 SDI/IO2 (in), 8 SDO/RING (in), 9 SWIOP (in), 10 SWION (in), 11 CLK (in), 12 SWSEL (in), 14 O2A1 (in), 15 BR2A (in), 16 O2A2 (in), 20 O2B1 (in), 21 BR2B (in), 22 O2B2 (in), 24 NEXTADDR (in), 25 REFR2 (in), 26 REFL2 (in), 27 REFR1 (in), 28 REFL1 (in), 29 ~{DRV_EN} (in), 39 O1B2 (in), 40 BR1B (in), 41 O1B1 (in), 45 01A2 (in), 46 BR1A (in), 47 01A1 (in), 48 TST_MODE (in)
part B pins: 6 GND (in), 7 VCC_IO (in), 13 NC (in), 17 VS (in), 18 GNDP (in), 19 VS (in), 23 NC (in), 30 VSA (in), 31 GNDA (in), 32 5VOUT (in), 33 VCC (in), 34 GND (in), 35 CPO (in), 36 CPI (in), 37 VCP (in), 38 NC (in), 42 VS (in), 43 GNDP (in), 44 VS (in), EP1 GND (in)

## TPD8S300RUKR
designator U?
pins: 1 C_SBU1 (io), 2 C_SBU2 (io), 3 VBIAS (power), 4 C_CC1 (io), 5 C_CC2 (io), 6 RPD_G2 (io), 7 RPD_G1 (io), 8 GND (power), 9 ~{FLT} (out), 10 VPWR (power), 11 CC2 (io), 12 CC1 (io), 13 GND (power), 14 SBU2 (io), 15 SBU1 (io), 16 D4 (io), 17 D3 (io), 18 GND (power), 19 D2 (io), 20 D1 (io), 21 Thermal Pad (power)

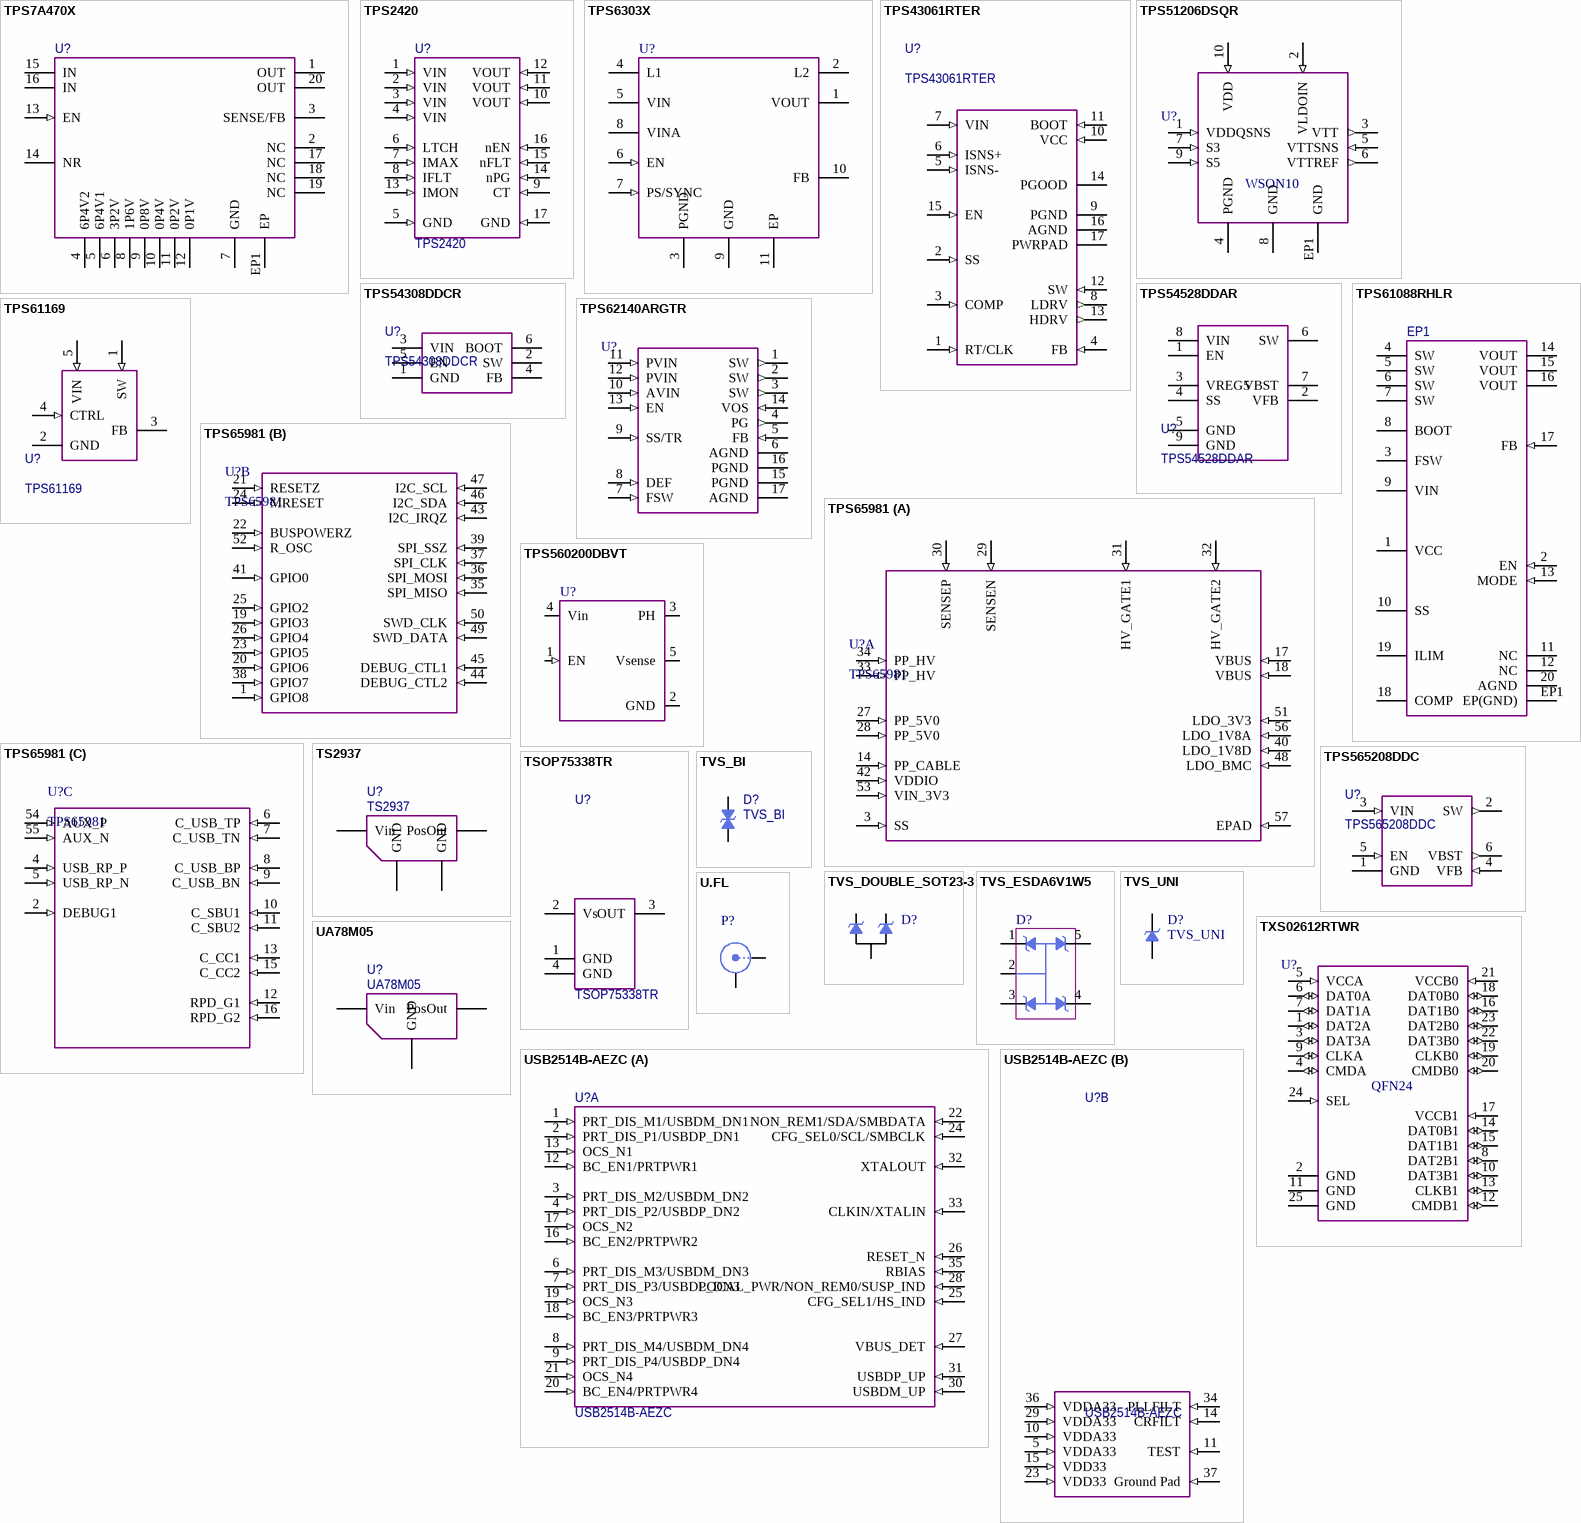
[diagram p12: symbols TPS7A470X to USB2514B-AEZC]

## TPS7A470X
designator U?  (value not drawn)
pins: 1 OUT (power), 2 NC, 3 SENSE/FB, 4 6P4V2, 5 6P4V1, 6 3P2V, 7 GND (power), 8 1P6V, 9 0P8V, 10 0P4V, 11 0P2V, 12 0P1V, 13 EN (in), 14 NR, 15 IN (power), 16 IN (power), 17 NC, 18 NC, 19 NC, 20 OUT (power), EP1 EP (power)

## TPS2420
designator U?
pins: 1 VIN (in) "Power in and control supply voltage .", 2 VIN (in) "Power in and control supply voltage .", 3 VIN (in) "Power in and control supply voltage .", 4 VIN (in) "Power in and control supply voltage .", 5 GND (in) "Ground", 6 LTCH (in) "If low, the TPS2420 will attempt to restart after an overcurrent fault", 7 IMAX (in) "A resistor to ground sets the current-limit level.", 8 IFLT (in) "A resistor to ground sets the fault current level.", 9 CT (in) "A capacitor to ground sets the fault time", 10 VOUT (in) "Output to the load.", 11 VOUT (in) "Output to the load.", 12 VOUT (in) "Output to the load.", 13 IMON (in) "A scaled down current which indicates the current through the device", 14 nPG (in) "Power Good low represents the output voltage is within 300 mV of the input voltage.", 15 nFLT (in) "Fault low indicated the fault time has expired and the FET is switched off", 16 nEN (in) "Device is enabled when this pin is pulled low", 17 GND (in) "Device Pad"

## TPS6303X
designator U?  (value not drawn)
High Efficiency Single Inductor Buck-Boost Converter With 1-A Switches
pins: 1 VOUT (power), 2 L2, 3 PGND (power), 4 L1, 5 VIN (power), 6 EN (in), 7 PS/SYNC (in), 8 VINA (power), 9 GND (power), 10 FB, 11 EP (power)

## TPS43061RTER
designator U?
pins: 1 RT/CLK (in), 2 SS (in), 3 COMP (in), 4 FB (in), 5 ISNS- (in), 6 ISNS+ (in), 7 VIN (in), 8 LDRV (out), 9 PGND, 10 VCC (in), 11 BOOT (in), 12 SW (in), 13 HDRV (out), 14 PGOOD (oc), 15 EN (in), 16 AGND, 17 PWRPAD

## TPS51206DSQR
designator U?  SCH_Footprint: WSON10  (hidden comment: TPS51206DSQR)
pins: 1 VDDQSNS (in), 2 VLDOIN (in), 3 VTT (out), 4 PGND, 5 VTTSNS (in), 6 VTTREF (out), 7 S3 (in), 8 GND, 9 S5 (in), 10 VDD (in), EP1 GND

## TPS54308DDCR
designator U?
pins: 1 GND, 2 SW, 3 VIN, 4 FB, 5 EN, 6 BOOT

## TPS54528DDAR
designator U?
pins: 1 EN, 2 VFB, 3 VREG5, 4 SS, 5 GND, 6 SW, 7 VBST, 8 VIN, 9 GND

## TPS61088RHLR
designator EP1  (value not drawn)
TPS61088 10-A Fully-Integrated Synchronous Boost Converter; Manufacturer: TEXAS INSTRUMENTS; Table: Regulators; Part Number: TPS61088RHLR; Component Kind: Standard; Component Type: Standard; Footprint: RHL20-3050X2050TP; PackageDescription: QFN, 20-Leads, Body 4.5x3.5mm, Pitch 0.5mm, Thermal Pad 3.05x2.05mm, TI Recommended; Part Description: TPS61088 10-A Fully-Integrated Synchronous Boost Converter; Manufacturer Part Number: TPS61088RHLR; Pin Count: 21; Case: QFN20; Mounted: Yes; Socket: No; SMD: Yes; ComponentHeight: 1mm; Author: Yuri; CreateDate: 31.03.2018; LatestRevisionDate: 31.03.2018; Device: TPS61088RHLR
pins: 1 VCC, 2 EN (in), 3 FSW, 4 SW, 5 SW, 6 SW, 7 SW, 8 BOOT, 9 VIN (power), 10 SS, 11 NC, 12 NC, 13 MODE (in), 14 VOUT (power), 15 VOUT (power), 16 VOUT (power), 17 FB (in), 18 COMP, 19 ILIM, 20 AGND (power), EP1 EP(GND) (power)